# Altium schematic symbol library Lib_001.SchLib: 489 symbols (part 2 of 4)
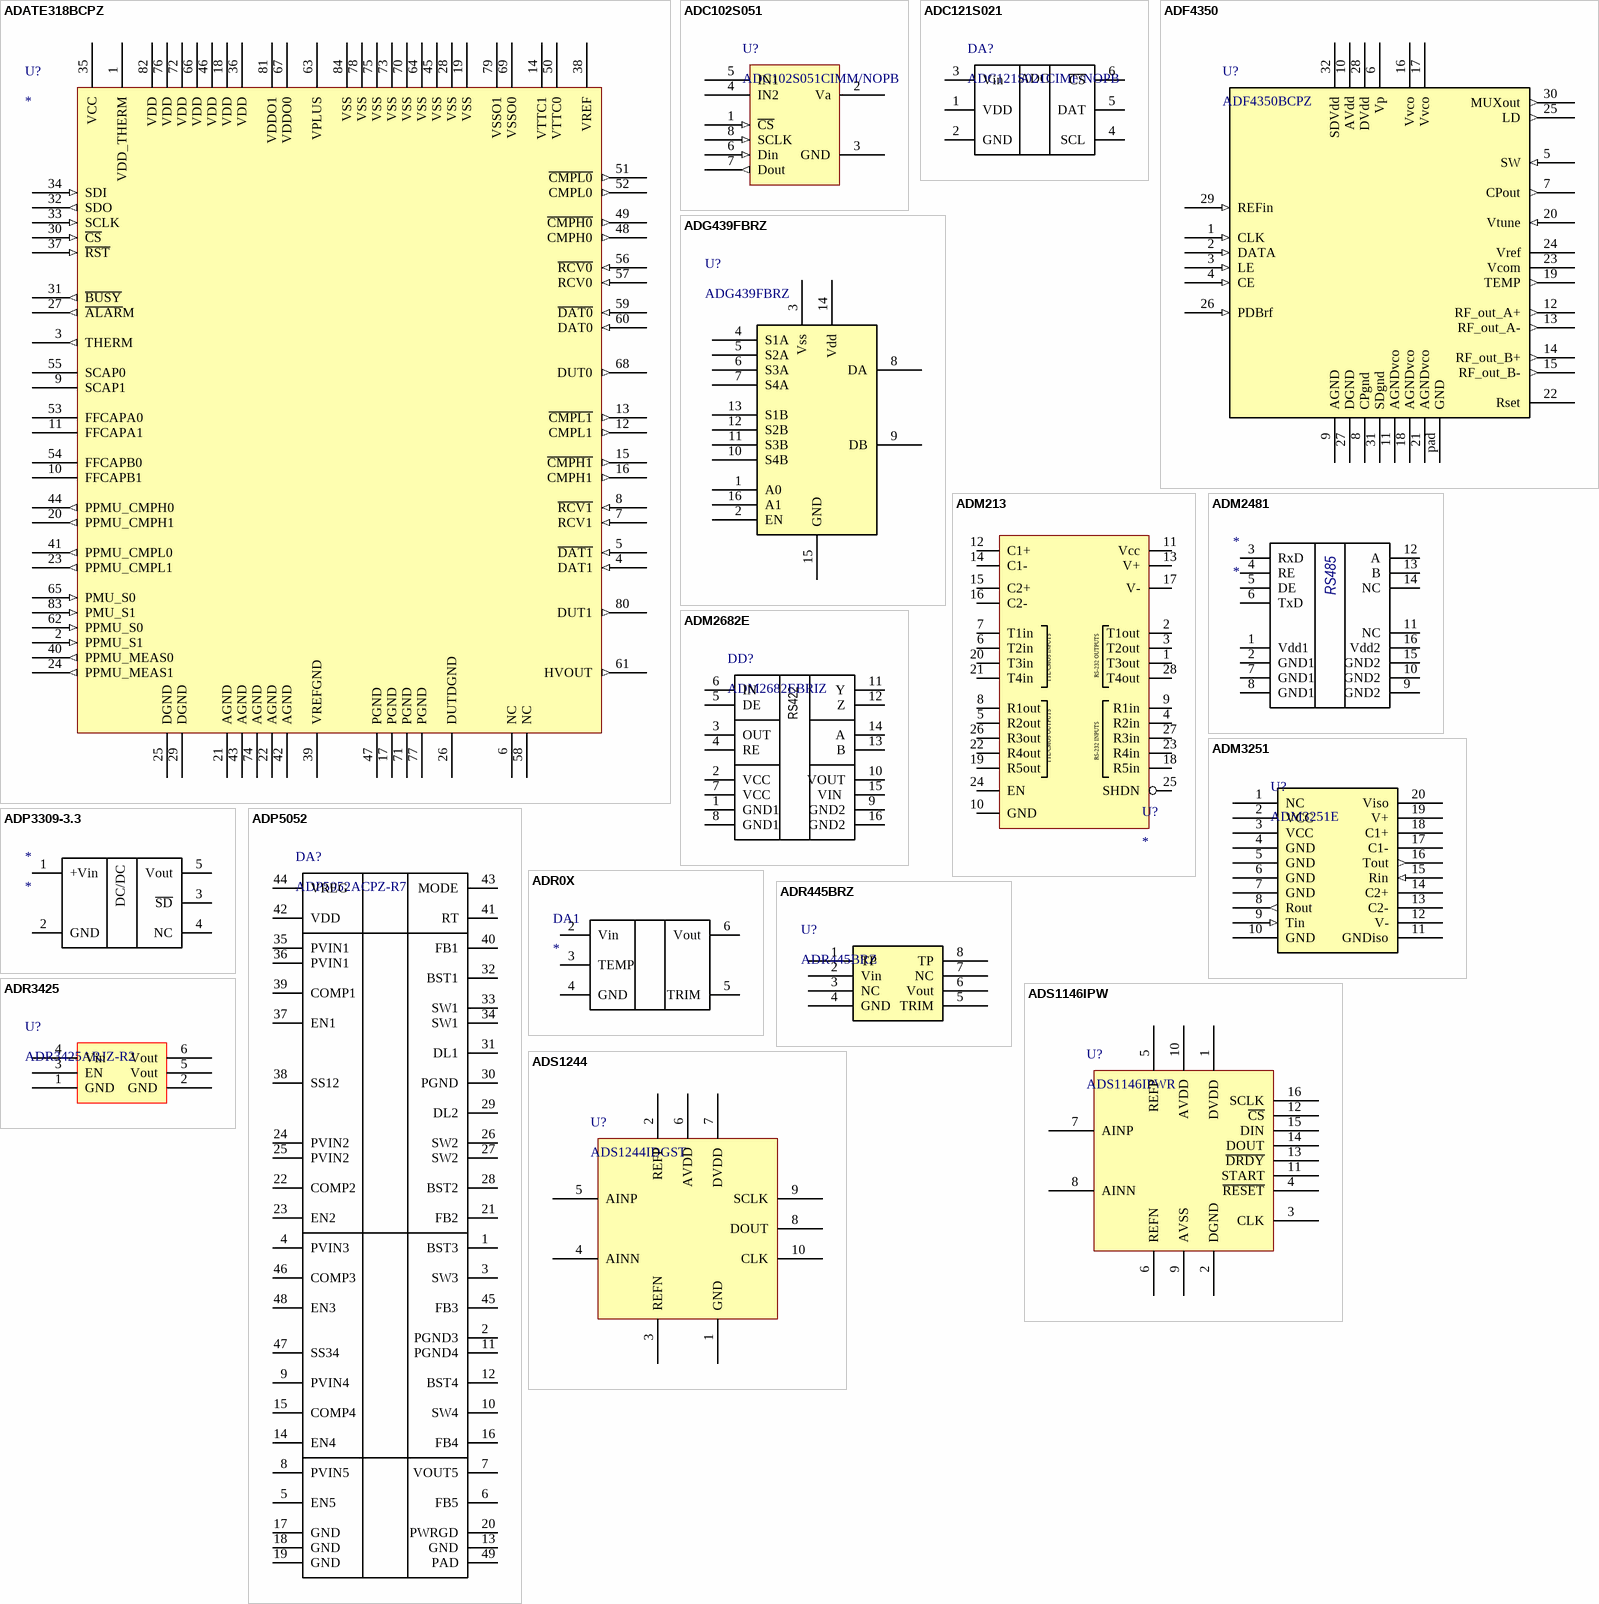
[diagram p37: symbols ADATE318BCPZ to ADS1244]

## ADM2682E
designator DD?, comment ADM2682EBRIZ
Isolated Single Channel RS-422 Line Driver/Receiver; value: ADM2682EBRIZ
footprint SO16_WB (16-Lead SOIC (wide body))
pins: 1 GND1, 2 VCC, 3 OUT, 4 RE, 5 DE, 6 IN, 7 VCC, 8 GND1, 9 GND2, 10 VOUT, 11 Y, 12 Z, 13 B, 14 A, 15 VIN , 16 GND2
text: RS422

## ADM3251
designator U?, comment ADM3251E
Isolated Single Channel RS-232 Line Driver/Receiver; value: ADM3251E
footprint SO-20-W
pins: 1 NC, 2 VCC, 3 VCC, 4 GND, 5 GND, 6 GND, 7 GND, 8 Rout (out), 9 Tin (in), 10 GND, 11 GNDiso, 12 V-, 13 C2-, 14 C2+, 15 Rin (in), 16 Tout (out), 17 C1-, 18 C1+, 19 V+, 20 Viso

## ADP3309-3.3
designator *
pins: 1 +Vin, 2 GND, 3 ~{SD}, 4 NC, 5 Vout
text: DC/DC

## ADP5052
designator DA?, comment ADP5052ACPZ-R7
-  Channel Integrated Power Solution with Quad Buck Regulators and 200 mA LDO Regulator; value: ADP5052ACPZ-R7
pins: 1 BST3 (power), 2 PGND3 (power), 3 SW3 (power), 4 PVIN3 (power), 5 EN5 (power), 6 FB5 (power), 7 VOUT5 (power), 8 PVIN5 (power), 9 PVIN4 (power), 10 SW4 (power), 11 PGND4 (power), 12 BST4 (power), 13 GND (power), 14 EN4 (power), 15 COMP4 (power), 16 FB4 (power), 17 GND (power), 18 GND (power), 19 GND (power), 20 PWRGD (power), 21 FB2 (power), 22 COMP2 (power), 23 EN2 (power), 24 PVIN2 (power), 25 PVIN2 (power), 26 SW2 (power), 27 SW2 (power), 28 BST2 (power), 29 DL2 (power), 30 PGND (power), 31 DL1 (power), 32 BST1 (power), 33 SW1 (power), 34 SW1 (power), 35 PVIN1 (power), 36 PVIN1 (power), 37 EN1 (power), 38 SS12  (power), 39 COMP1 (power), 40 FB1 (power), 41 RT (power), 42 VDD  (power), 43 MODE (power), 44 VREG (power), 45 FB3 (power), 46 COMP3 (power), 47 SS34 (power), 48 EN3 (power), 49 PAD (power)

## ADR0X
designator DA1
10.0 V/5.0 V/2.5 V/3.0 V Voltage References
footprint SOIC8
pins: 2 Vin, 3 TEMP, 4 GND, 5 TRIM, 6 Vout

## ADR445BRZ
designator U?
value: ADR445BRZ
footprint SOIC8
pins: 1 TP, 2 Vin, 3 NC, 4 GND, 5 TRIM, 6 Vout, 7 NC, 8 TP

## ADR3425
designator U?, comment ADR3425ARJZ-R2
value: ADR3425ARJZ-R2
footprint SOT-23-6 (SOT-23 5pin)
pins: 1 GND (power), 2 GND (power), 3 EN (power), 4 Vin (power), 5 Vout (power), 6 Vout (power)

## ADS1146IPW
designator U?, comment ADS1146IPWR
16-Bit  Analog-to-Digital  Converters; value: ADS1146IPWR
footprint TSSOP16
pins: 1 DVDD, 2 DGND, 3 CLK, 4 ~{RESET}, 5 REFP, 6 REFN, 7 AINP, 8 AINN, 9 AVSS, 10 AVDD, 11 START, 12 ~{CS}, 13 ~{DRDY}, 14 DOUT, 15 DIN, 16 SCLK

## ADS1244
designator U?, comment ADS1244IDGST
16-Bit  Analog-to-Digital  Converters; value: ADS1244IDGST
footprint MSOP10
pins: 1 GND, 2 REFP, 3 REFN, 4 AINN, 5 AINP, 6 AVDD, 7 DVDD, 8 DOUT, 9 SCLK, 10 CLK

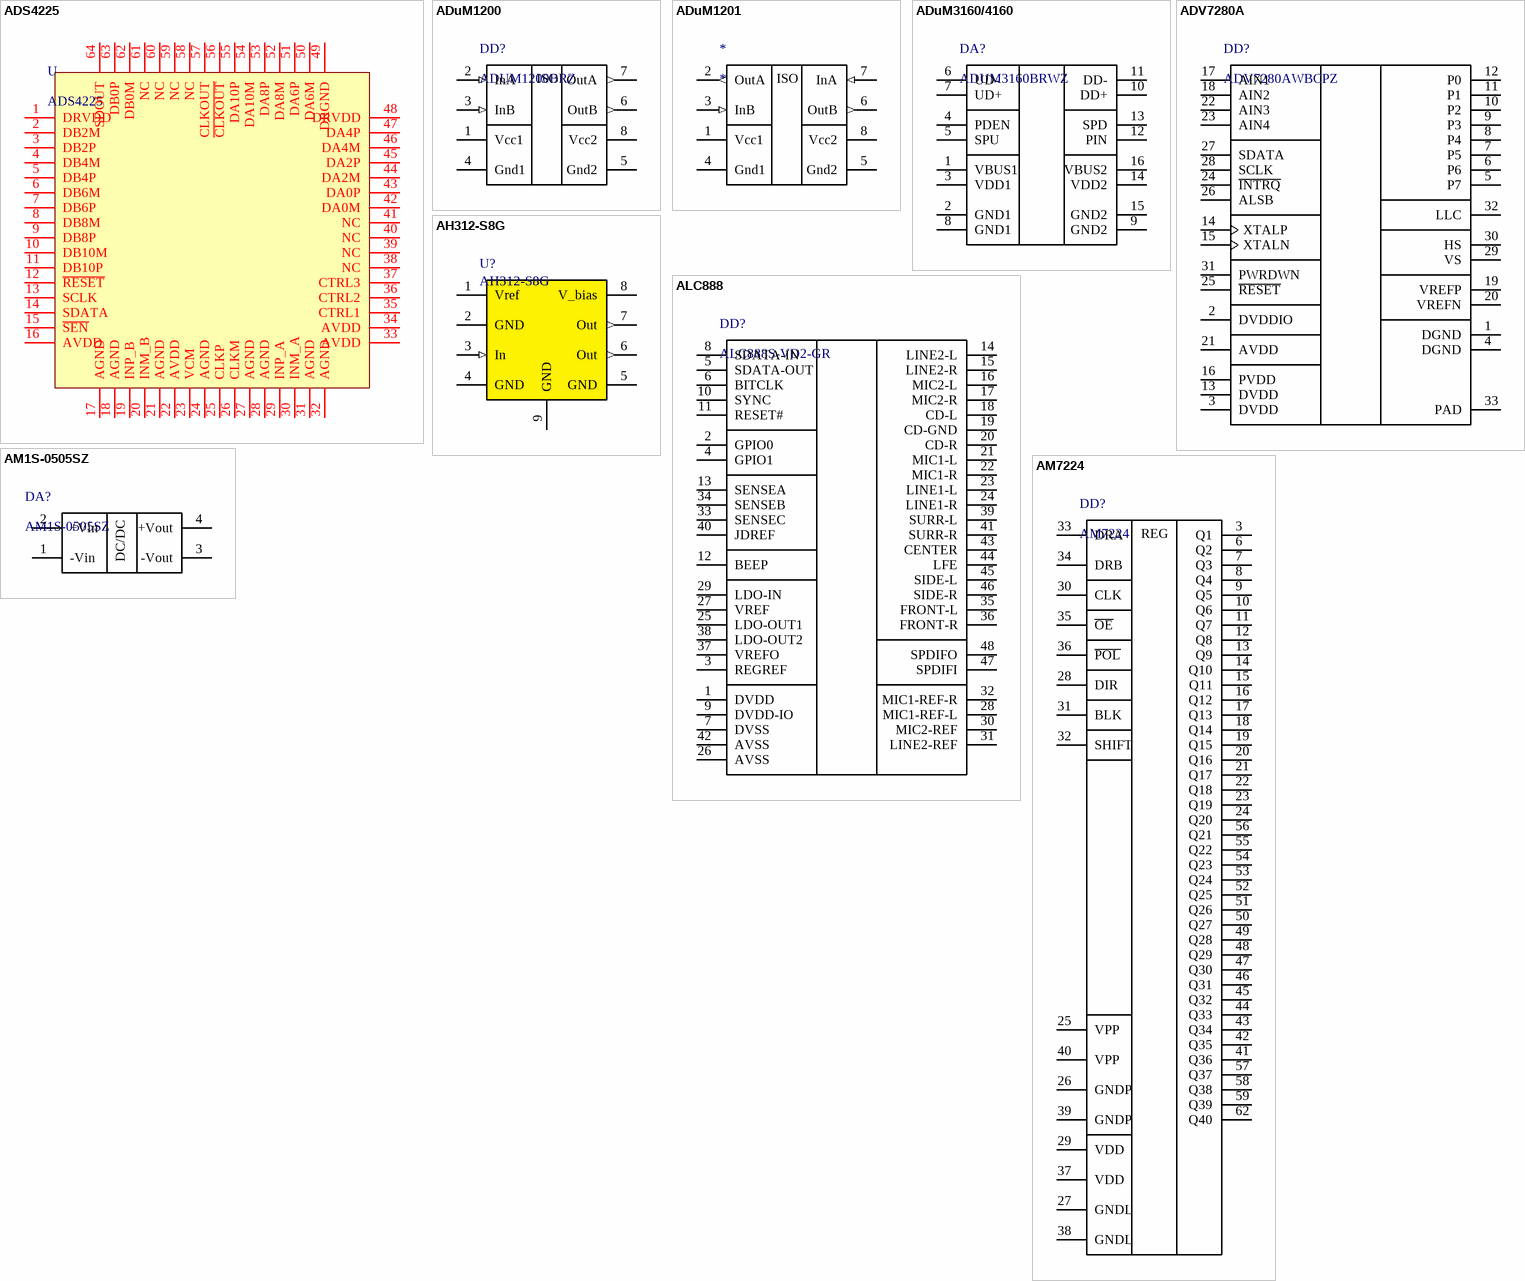
[diagram p9: symbols ADS4225 to AM7224]

## ADS4225
designator U
pins: 1 DRVDD, 2 DB2M, 3 DB2P, 4 DB4M, 5 DB4P, 6 DB6M, 7 DB6P, 8 DB8M, 9 DB8P, 10 DB10M, 11 DB10P, 12 ~{RESET}, 13 SCLK, 14 SDATA, 15 ~{SEN}, 16 AVDD, 17 AGND, 18 AGND, 19 INP_B, 20 INM_B, 21 AGND, 22 AVDD, 23 VCM, 24 AGND, 25 CLKP, 26 CLKM, 27 AGND, 28 AGND, 29 INP_A, 30 INM_A, 31 AGND, 32 AGND, 33 AVDD, 34 AVDD, 35 CTRL1, 36 CTRL2, 37 CTRL3, 38 NC, 39 NC, 40 NC, 41 NC, 42 DA0M, 43 DA0P, 44 DA2M, 45 DA2P, 46 DA4M, 47 DA4P, 48 DRVDD, 49 DRGND, 50 DA6M, 51 DA6P, 52 DA8M, 53 DA8P, 54 DA10M, 55 DA10P, 56 ~{CLKOUT}, 57 CLKOUT, 58 NC, 59 NC, 60 NC, 61 NC, 62 DB0M, 63 DB0P, 64 SDOUT

## ADuM1200
designator DD?, comment ADUM1200BRZ
Dual-Channel Digital Isolators; value: ADUM1200BRZ
footprint SO8 (SOIC, 8-Leads, Body 4.9x3.9mm, Pitch 1.27mm, IPC Medium Density)
pins: 1 Vcc1 (power), 2 InA (in), 3 InB (in), 4 Gnd1 (power), 5 Gnd2 (power), 6 OutB (out), 7 OutA (out), 8 Vcc2 (power)
text: ISO

## ADuM1201
designator *
Dual-Channel Digital Isolators
pins: 1 Vcc1 (power), 2 OutA (out), 3 InB (in), 4 Gnd1 (power), 5 Gnd2 (power), 6 OutB (out), 7 InA (in), 8 Vcc2 (power)
text: ISO

## ADuM3160/4160
designator DA?, comment ADUM3160BRWZ
USB isolator; value: ADUM3160BRWZ
footprint SO16_WB (16-Lead SOIC (wide body))
pins: 1 VBUS1, 2 GND1, 3 VDD1, 4 PDEN, 5 SPU, 6 UD-, 7 UD+, 8 GND1, 9 GND2, 10 DD+, 11 DD-, 12 PIN, 13 SPD, 14 VDD2, 15 GND2, 16 VBUS2

## ADV7280A
designator DD?, comment ADV7280AWBCPZ
TV Video decoder; value: ADV7280AWBCPZ
footprint QFN32 (Footprint not found)
pins: 1 DGND, 2 DVDDIO, 3 DVDD, 4 DGND, 5 P7, 6 P6, 7 P5, 8 P4, 9 P3, 10 P2, 11 P1, 12 P0, 13 DVDD, 14 XTALP, 15 XTALN, 16 PVDD, 17 AIN1, 18 AIN2, 19 VREFP, 20 VREFN, 21 AVDD, 22 AIN3, 23 AIN4, 24 ~{INTRQ}, 25 ~{RESET}, 26 ALSB, 27 SDATA, 28 SCLK, 29 VS, 30 HS, 31 PWRDWN, 32 LLC, 33 PAD

## AH312-S8G
designator U?
value: AH312-S8G
footprint SOIC8 PAD
pins: 1 Vref (power), 2 GND, 3 In (in), 4 GND, 5 GND, 6 Out (out), 7 Out (out), 8 V_bias (power), 9 GND (power)

## ALC888
designator DD?, comment ALC888S-VD2-GR
value: ALC888S-VD2-GR
footprint LQFP48 (Footprint not found)
pins: 1 DVDD, 2 GPIO0, 3 REGREF, 4 GPIO1, 5 SDATA-OUT, 6 BITCLK, 7 DVSS, 8 SDATA-IN, 9 DVDD-IO, 10 SYNC, 11 RESET#, 12 BEEP, 13 SENSEA, 14 LINE2-L, 15 LINE2-R, 16 MIC2-L, 17 MIC2-R, 18 CD-L, 19 CD-GND, 20 CD-R, 21 MIC1-L, 22 MIC1-R, 23 LINE1-L, 24 LINE1-R, 25 LDO-OUT1, 26 AVSS, 27 VREF, 28 MIC1-REF-L, 29 LDO-IN, 30 MIC2-REF, 31 LINE2-REF, 32 MIC1-REF-R, 33 SENSEC, 34 SENSEB, 35 FRONT-L, 36 FRONT-R, 37 VREFO, 38 LDO-OUT2, 39 SURR-L, 40 JDREF, 41 SURR-R, 42 AVSS, 43 CENTER, 44 LFE, 45 SIDE-L, 46 SIDE-R, 47 SPDIFI, 48 SPDIFO

## AM1S-0505SZ
designator DA?
1 Watt  DC-DC Converter; value: AM1S-0505SZ
footprint SIP_4
pins: 1 -Vin, 2 +Vin, 3 -Vout, 4 +Vout
text: DC/DC

## AM7224
designator DD?
Ангстрем; value: AM7224; rus_value: AM7224
footprint Н18.64-3В
footprint Н18.64-3В_short pins
pins: 3 Q1, 6 Q2, 7 Q3, 8 Q4, 9 Q5, 10 Q6, 11 Q7, 12 Q8, 13 Q9, 14 Q10, 15 Q11, 16 Q12, 17 Q13, 18 Q14, 19 Q15, 20 Q16, 21 Q17, 22 Q18, 23 Q19, 24 Q20, 25 VPP, 26 GNDP, 27 GNDL, 28 DIR, 29 VDD, 30 CLK, 31 BLK, 32 SHIFT, 33 DRA, 34 DRB, 35 ~{OE}, 36 ~{POL}, 37 VDD, 38 GNDL, 39 GNDP, 40 VPP, 41 Q36, 42 Q35, 43 Q34, 44 Q33, 45 Q32, 46 Q31, 47 Q30, 48 Q29, 49 Q28, 50 Q27, 51 Q26, 52 Q25, 53 Q24, 54 Q23, 55 Q22, 56 Q21, 57 Q37, 58 Q38, 59 Q39, 62 Q40
text: REG

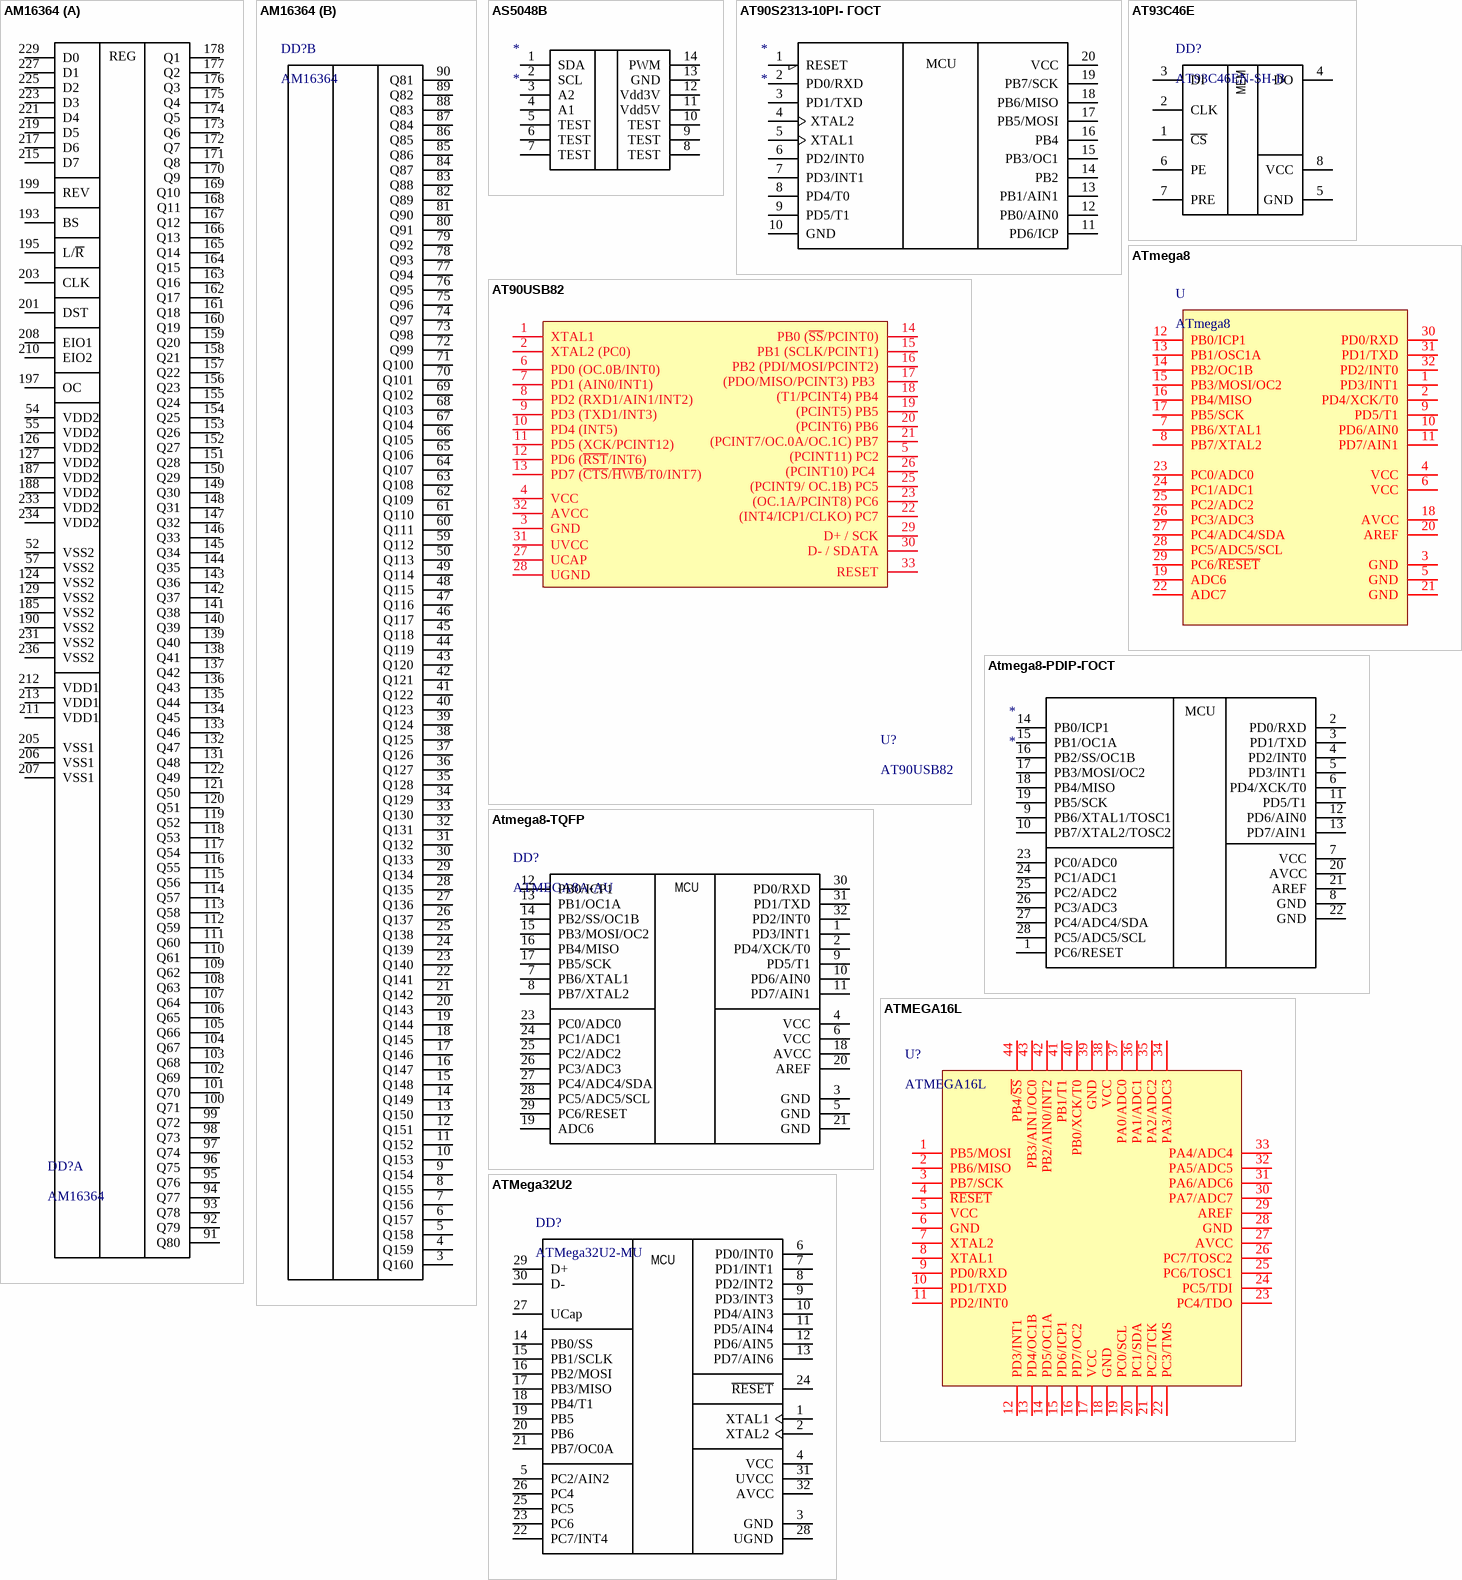
[diagram p10: symbols AM16364 to ATMega32U2]

## AM16364
designator DD?
Ангстрем; value: AM16364
footprint 4245.240-6
part A pins: 52 VSS2, 54 VDD2, 55 VDD2, 57 VSS2, 91 Q80, 92 Q79, 93 Q78, 94 Q77, 95 Q76, 96 Q75, 97 Q74, 98 Q73, 99 Q72, 100 Q71, 101 Q70, 102 Q69, 103 Q68, 104 Q67, 105 Q66, 106 Q65, 107 Q64, 108 Q63, 109 Q62, 110 Q61, 111 Q60, 112 Q59, 113 Q58, 114 Q57, 115 Q56, 116 Q55, 117 Q54, 118 Q53, 119 Q52, 120 Q51, 121 Q50, 122 Q49, 124 VSS2, 126 VDD2, 127 VDD2, 129 VSS2, 131 Q48, 132 Q47, 133 Q46, 134 Q45, 135 Q44, 136 Q43, 137 Q42, 138 Q41, 139 Q40, 140 Q39, 141 Q38, 142 Q37, 143 Q36, 144 Q35, 145 Q34, 146 Q33, 147 Q32, 148 Q31, 149 Q30, 150 Q29, 151 Q28, 152 Q27, 153 Q26, 154 Q25, 155 Q24, 156 Q23, 157 Q22, 158 Q21, 159 Q20, 160 Q19, 161 Q18, 162 Q17, 163 Q16, 164 Q15, 165 Q14, 166 Q13, 167 Q12, 168 Q11, 169 Q10, 170 Q9, 171 Q8, 172 Q7, 173 Q6, 174 Q5, 175 Q4, 176 Q3, 177 Q2, 178 Q1, 185 VSS2, 187 VDD2, 188 VDD2, 190 VSS2, 193 BS, 195 L/~{R}, 197 OC, 199 REV, 201 DST, 203 CLK, 205 VSS1, 206 VSS1, 207 VSS1, 208 EIO1, 210 EIO2, 211 VDD1, 212 VDD1, 213 VDD1, 215 D7, 217 D6, 219 D5, 221 D4, 223 D3, 225 D2, 227 D1, 229 D0, 231 VSS2, 233 VDD2, 234 VDD2, 236 VSS2
part B pins: 3 Q160, 4 Q159, 5 Q158, 6 Q157, 7 Q156, 8 Q155, 9 Q154, 10 Q153, 11 Q152, 12 Q151, 13 Q150, 14 Q149, 15 Q148, 16 Q147, 17 Q146, 18 Q145, 19 Q144, 20 Q143, 21 Q142, 22 Q141, 23 Q140, 24 Q139, 25 Q138, 26 Q137, 27 Q136, 28 Q135, 29 Q134, 30 Q133, 31 Q132, 32 Q131, 33 Q130, 34 Q129, 35 Q128, 36 Q127, 37 Q126, 38 Q125, 39 Q124, 40 Q123, 41 Q122, 42 Q121, 43 Q120, 44 Q119, 45 Q118, 46 Q117, 47 Q116, 48 Q115, 49 Q114, 50 Q113, 59 Q112, 60 Q111, 61 Q110, 62 Q109, 63 Q108, 64 Q107, 65 Q106, 66 Q105, 67 Q104, 68 Q103, 69 Q102, 70 Q101, 71 Q100, 72 Q99, 73 Q98, 74 Q97, 75 Q96, 76 Q95, 77 Q94, 78 Q93, 79 Q92, 80 Q91, 81 Q90, 82 Q89, 83 Q88, 84 Q87, 85 Q86, 86 Q85, 87 Q84, 88 Q83, 89 Q82, 90 Q81
part A text: REG

## AS5048B
designator *
pins: 1 SDA, 2 SCL, 3 A2, 4 A1, 5 TEST, 6 TEST, 7 TEST, 8 TEST, 9 TEST, 10 TEST, 11 Vdd5V, 12 Vdd3V, 13 GND, 14 PWM

## AT90S2313-10PI- ГОСТ
designator *
footprint SO-20-W
pins: 1 RESET, 2 PD0/RXD, 3 PD1/TXD, 4 XTAL2, 5 XTAL1, 6 PD2/INT0, 7 PD3/INT1, 8 PD4/T0, 9 PD5/T1, 10 GND, 11 PD6/ICP, 12 PB0/AIN0, 13 PB1/AIN1, 14 PB2, 15 PB3/OC1, 16 PB4, 17 PB5/MOSI, 18 PB6/MISO, 19 PB7/SCK, 20 VCC
text: MCU

## AT90USB82
designator U?
pins: 1 XTAL1, 2 XTAL2 (PC0) , 3 GND, 4 VCC, 5 (PCINT11) PC2, 6 PD0 (OC.0B/INT0), 7 PD1 (AIN0/INT1), 8 PD2 (RXD1/AIN1/INT2), 9 PD3 (TXD1/INT3), 10 PD4 (INT5), 11 PD5 (XCK/PCINT12), 12 PD6 (~{RST}/INT6), 13 PD7 (~{CTS}/~{HWB}/T0/INT7), 14 PB0 (~{SS}/PCINT0), 15 PB1 (SCLK/PCINT1), 16 PB2 (PDI/MOSI/PCINT2), 17 (PDO/MISO/PCINT3) PB3 , 18 (T1/PCINT4) PB4, 19 (PCINT5) PB5, 20 (PCINT6) PB6, 21 (PCINT7/OC.0A/OC.1C) PB7, 22 (INT4/ICP1/CLKO) PC7, 23 (OC.1A/PCINT8) PC6, 25 (PCINT9/ OC.1B) PC5, 26 (PCINT10) PC4 , 27 UCAP, 28 UGND, 29 D+ / SCK, 30 D- / SDATA, 31 UVCC, 32 AVCC, 33 RESET

## AT93C46E
designator DD?, comment AT93C46EN-SH-B
SERIAL FLASH MEMORY WITH 4KB SECTORS AND DUAL I/O SPI; value: AT93C46EN-SH-B
footprint SO8 (SOIC, 8-Leads, Body 4.9x3.9mm, Pitch 1.27mm, IPC Medium Density)
pins: 1 ~{CS}, 2 CLK, 3 DI, 4 DO, 5 GND, 6 PE, 7 PRE, 8 VCC
text: MEM

## ATmega8
designator U
footprint TQFP32
pins: 1 PD3/INT1, 2 PD4/XCK/T0, 3 GND, 4 VCC, 5 GND, 6 VCC, 7 PB6/XTAL1, 8 PB7/XTAL2, 9 PD5/T1, 10 PD6/AIN0, 11 PD7/AIN1, 12 PB0/ICP1, 13 PB1/OSC1A, 14 PB2/OC1B, 15 PB3/MOSI/OC2, 16 PB4/MISO, 17 PB5/SCK, 18 AVCC, 19 ADC6, 20 AREF, 21 GND, 22 ADC7, 23 PC0/ADC0, 24 PC1/ADC1, 25 PC2/ADC2, 26 PC3/ADC3, 27 PC4/ADC4/SDA, 28 PC5/ADC5/SCL, 29 PC6/~{RESET}, 30 PD0/RXD, 31 PD1/TXD, 32 PD2/INT0

## Atmega8-PDIP-ГОСТ
designator *
Atmega8
footprint TQFP44
pins: 1 PC6/RESET, 2 PD0/RXD, 3 PD1/TXD, 4 PD2/INT0, 5 PD3/INT1, 6 PD4/XCK/T0, 7 VCC, 8 GND, 9 PB6/XTAL1/TOSC1, 10 PB7/XTAL2/TOSC2, 11 PD5/T1, 12 PD6/AIN0, 13 PD7/AIN1, 14 PB0/ICP1, 15 PB1/OC1A, 16 PB2/SS/OC1B, 17 PB3/MOSI/OC2, 18 PB4/MISO, 19 PB5/SCK, 20 AVCC, 21 AREF, 22 GND, 23 PC0/ADC0, 24 PC1/ADC1, 25 PC2/ADC2, 26 PC3/ADC3, 27 PC4/ADC4/SDA, 28 PC5/ADC5/SCL
text: MCU

## Atmega8-TQFP
designator DD?, comment ATMEGA8A-AU
Atmega8; value: ATMEGA8A-AU
footprint TQFP44
pins: 1 PD3/INT1, 2 PD4/XCK/T0, 3 GND, 4 VCC, 5 GND, 6 VCC, 7 PB6/XTAL1, 8 PB7/XTAL2, 9 PD5/T1, 10 PD6/AIN0, 11 PD7/AIN1, 12 PB0/ICP1, 13 PB1/OC1A, 14 PB2/SS/OC1B, 15 PB3/MOSI/OC2, 16 PB4/MISO, 17 PB5/SCK, 18 AVCC, 19 ADC6, 20 AREF, 21 GND, 23 PC0/ADC0, 24 PC1/ADC1, 25 PC2/ADC2, 26 PC3/ADC3, 27 PC4/ADC4/SDA, 28 PC5/ADC5/SCL, 29 PC6/RESET, 30 PD0/RXD, 31 PD1/TXD, 32 PD2/INT0
text: MCU

## ATMEGA16L
designator U?
value: ATMEGA16L
footprint TQFP44
pins: 1 PB5/MOSI, 2 PB6/MISO, 3 PB7/SCK, 4 ~{RESET}, 5 VCC, 6 GND, 7 XTAL2, 8 XTAL1, 9 PD0/RXD, 10 PD1/TXD, 11 PD2/INT0, 12 PD3/INT1, 13 PD4/OC1B, 14 PD5/OC1A, 15 PD6/ICP1, 16 PD7/OC2, 17 VCC, 18 GND, 19 PC0/SCL, 20 PC1/SDA, 21 PC2/TCK, 22 PC3/TMS, 23 PC4/TDO, 24 PC5/TDI, 25 PC6/TOSC1, 26 PC7/TOSC2, 27 AVCC, 28 GND, 29 AREF, 30 PA7/ADC7, 31 PA6/ADC6, 32 PA5/ADC5, 33 PA4/ADC4, 34 PA3/ADC3, 35 PA2/ADC2, 36 PA1/ADC1, 37 PA0/ADC0, 38 VCC, 39 GND, 40 PB0/XCK/T0, 41 PB1/T1, 42 PB2/AIN0/INT2, 43 PB3/AIN1/OC0, 44 PB4/~{SS}

## ATMega32U2
designator DD?, comment ATMega32U2-MU
value: ATMega32U2-MU
footprint QFN32 (Footprint not found)
pins: 1 XTAL1, 2 XTAL2, 3 GND, 4 VCC, 5 PC2/AIN2, 6 PD0/INT0, 7 PD1/INT1, 8 PD2/INT2, 9 PD3/INT3, 10 PD4/AIN3, 11 PD5/AIN4, 12 PD6/AIN5, 13 PD7/AIN6, 14 PB0/SS, 15 PB1/SCLK, 16 PB2/MOSI, 17 PB3/MISO, 18 PB4/T1, 19 PB5, 20 PB6, 21 PB7/OC0A, 22 PC7/INT4, 23 PC6, 24 ~{RESET}, 25 PC5, 26 PC4, 27 UCap, 28 UGND, 29 D+, 30 D-, 31 UVCC, 32 AVCC
text: MCU

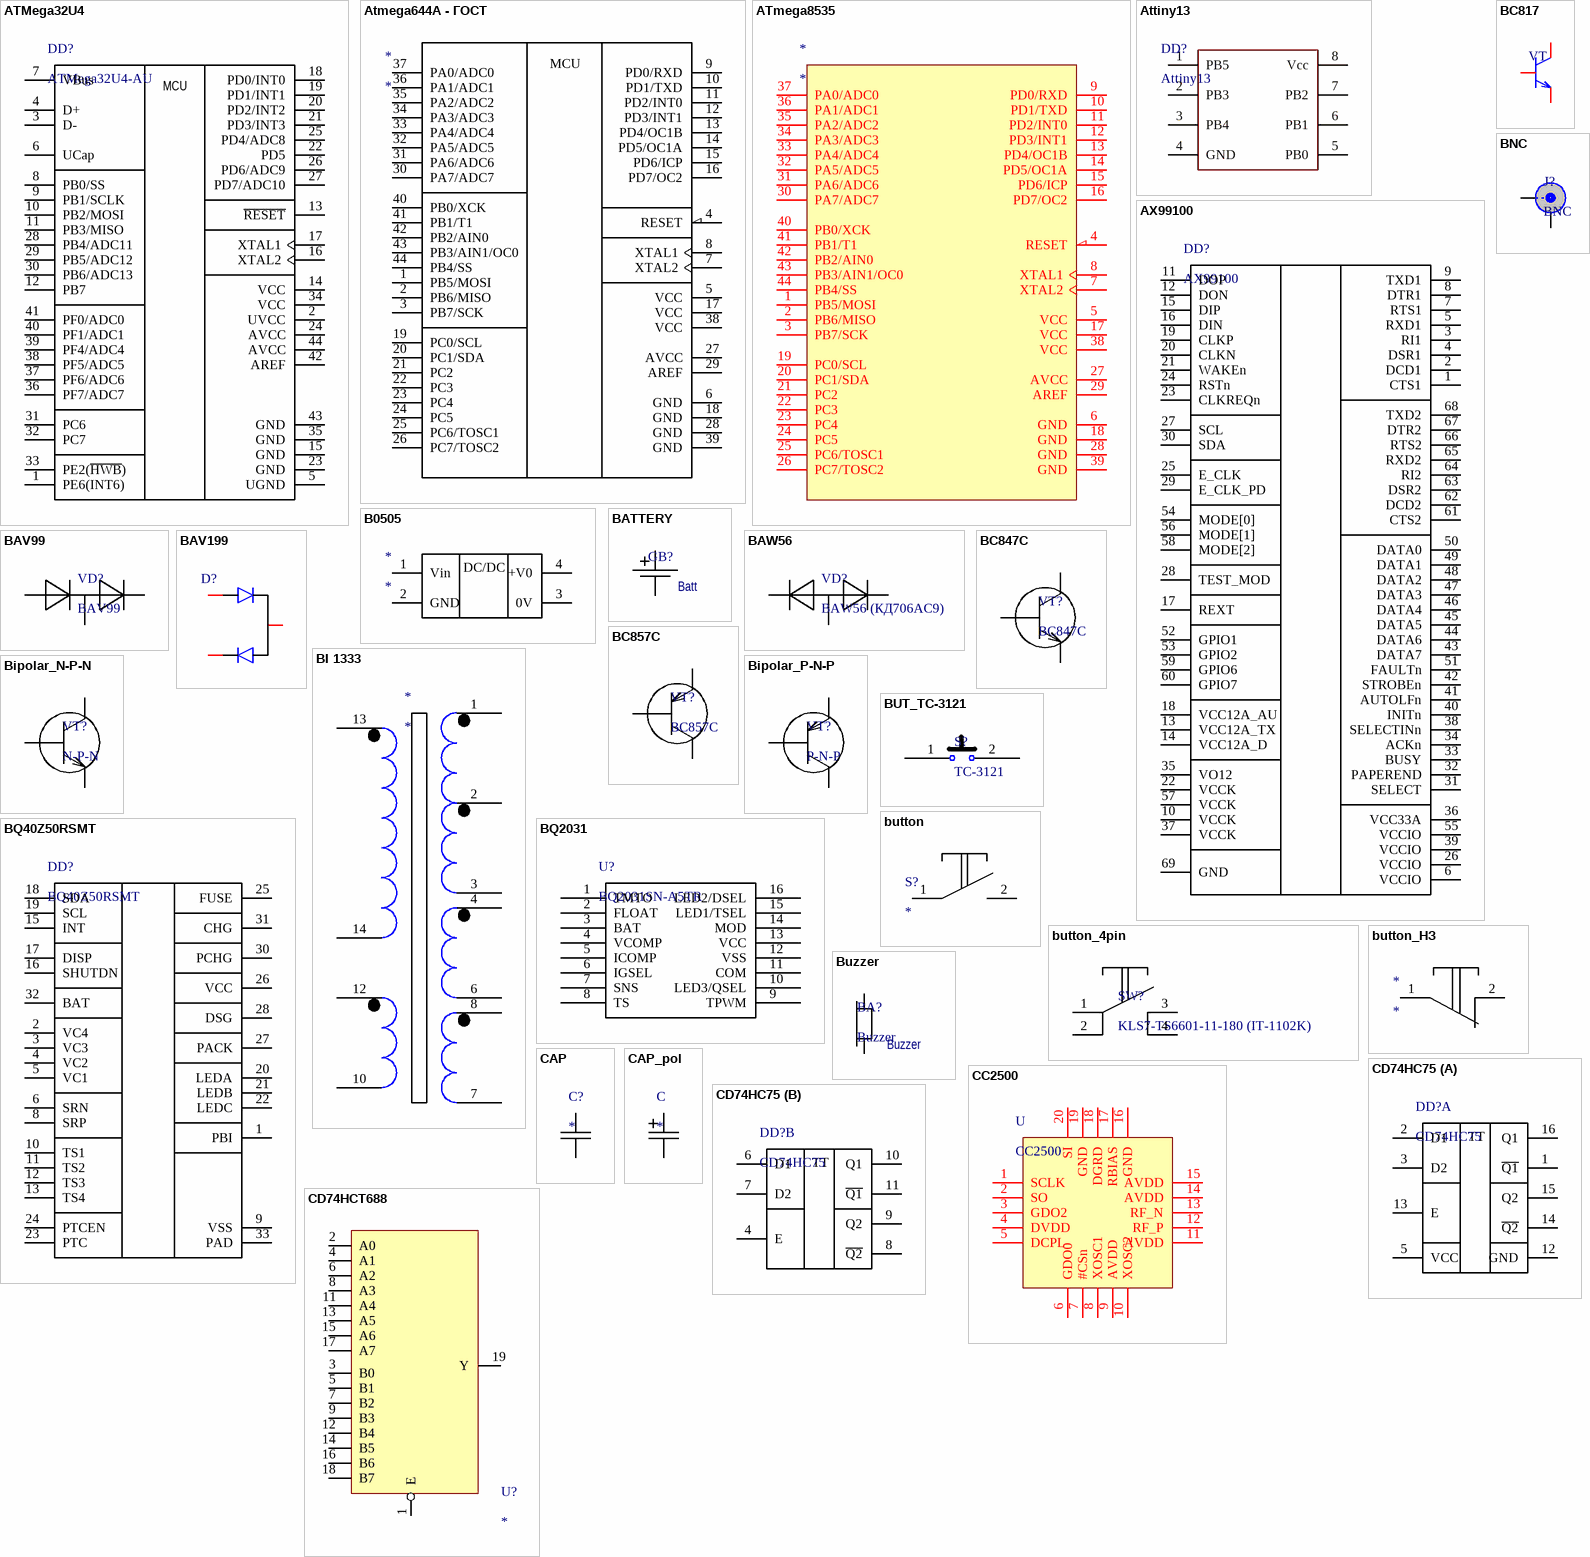
[diagram p11: symbols ATMega32U4 to CD74HCT688]

## ATMega32U4
designator DD?, comment ATMega32U4-AU
value: ATMega32U4-AU
footprint TQFP44
pins: 1 PE6(INT6), 2 UVCC, 3 D-, 4 D+, 5 UGND, 6 UCap, 7 VBus, 8 PB0/SS, 9 PB1/SCLK, 10 PB2/MOSI, 11 PB3/MISO, 12 PB7, 13 ~{RESET}, 14 VCC, 15 GND, 16 XTAL2, 17 XTAL1, 18 PD0/INT0, 19 PD1/INT1, 20 PD2/INT2, 21 PD3/INT3, 22 PD5, 23 GND, 24 AVCC, 25 PD4/ADC8, 26 PD6/ADC9, 27 PD7/ADC10, 28 PB4/ADC11, 29 PB5/ADC12, 30 PB6/ADC13, 31 PC6, 32 PC7, 33 PE2(~{HWB}), 34 VCC, 35 GND, 36 PF7/ADC7, 37 PF6/ADC6, 38 PF5/ADC5, 39 PF4/ADC4, 40 PF1/ADC1, 41 PF0/ADC0, 42 AREF, 43 GND, 44 AVCC
text: MCU

## Atmega644A - ГОСТ
designator *
footprint TQFP44
pins: 1 PB5/MOSI, 2 PB6/MISO, 3 PB7/SCK, 4 RESET, 5 VCC, 6 GND, 7 XTAL2, 8 XTAL1, 9 PD0/RXD, 10 PD1/TXD, 11 PD2/INT0, 12 PD3/INT1, 13 PD4/OC1B, 14 PD5/OC1A, 15 PD6/ICP, 16 PD7/OC2, 17 VCC, 18 GND, 19 PC0/SCL, 20 PC1/SDA, 21 PC2, 22 PC3, 23 PC4, 24 PC5, 25 PC6/TOSC1, 26 PC7/TOSC2, 27 AVCC, 28 GND, 29 AREF, 30 PA7/ADC7, 31 PA6/ADC6, 32 PA5/ADC5, 33 PA4/ADC4, 34 PA3/ADC3, 35 PA2/ADC2, 36 PA1/ADC1, 37 PA0/ADC0, 38 VCC, 39 GND, 40 PB0/XCK, 41 PB1/T1, 42 PB2/AIN0, 43 PB3/AIN1/OC0, 44 PB4/SS
text: MCU

## ATmega8535
designator *
footprint TQFP44
pins: 1 PB5/MOSI, 2 PB6/MISO, 3 PB7/SCK, 4 RESET, 5 VCC, 6 GND, 7 XTAL2, 8 XTAL1, 9 PD0/RXD, 10 PD1/TXD, 11 PD2/INT0, 12 PD3/INT1, 13 PD4/OC1B, 14 PD5/OC1A, 15 PD6/ICP, 16 PD7/OC2, 17 VCC, 18 GND, 19 PC0/SCL, 20 PC1/SDA, 21 PC2, 22 PC3, 23 PC4, 24 PC5, 25 PC6/TOSC1, 26 PC7/TOSC2, 27 AVCC, 28 GND, 29 AREF, 30 PA7/ADC7, 31 PA6/ADC6, 32 PA5/ADC5, 33 PA4/ADC4, 34 PA3/ADC3, 35 PA2/ADC2, 36 PA1/ADC1, 37 PA0/ADC0, 38 VCC, 39 GND, 40 PB0/XCK, 41 PB1/T1, 42 PB2/AIN0, 43 PB3/AIN1/OC0, 44 PB4/SS

## Attiny13
designator DD?
Value: Attiny13
pins: 1 PB5, 2 PB3, 3 PB4, 4 GND, 5 PB0, 6 PB1, 7 PB2, 8 Vcc

## AX99100
designator DD?
value: AX99100
footprint QFN68 (Footprint not found)
pins: 1 CTS1, 2 DCD1, 3 RI1, 4 DSR1, 5 RXD1, 6 VCCIO, 7 RTS1, 8 DTR1, 9 TXD1, 10 VCCK, 11 DOP, 12 DON, 13 VCC12A_TX, 14 VCC12A_D, 15 DIP, 16 DIN, 17 REXT, 18 VCC12A_AU, 19 CLKP, 20 CLKN, 21 WAKEn, 22 VCCK, 23 CLKREQn, 24 RSTn, 25 E_CLK, 26 VCCIO, 27 SCL, 28 TEST_MOD, 29 E_CLK_PD, 30 SDA, 31 SELECT, 32 PAPEREND, 33 BUSY, 34 ACKn, 35 VO12, 36 VCC33A, 37 VCCK, 38 SELECTINn, 39 VCCIO, 40 INITn, 41 AUTOLFn, 42 STROBEn, 43 DATA7, 44 DATA6, 45 DATA5, 46 DATA4, 47 DATA3, 48 DATA2, 49 DATA1, 50 DATA0, 51 FAULTn, 52 GPIO1, 53 GPIO2, 54 MODE[0], 55 VCCIO, 56 MODE[1], 57 VCCK, 58 MODE[2], 59 GPIO6, 60 GPIO7, 61 CTS2, 62 DCD2, 63 DSR2, 64 RI2, 65 RXD2, 66 RTS2, 67 DTR2, 68 TXD2, 69 GND

## B0505
designator *
pins: 1 Vin, 2 GND, 3 0V, 4 +V0
text: DC/DC

## BATTERY
designator GB?  (value not drawn)
footprint S8411-45R (Battery Holder 1220)
pins: 1, 2
text: Batt

## BAV99
designator VD?
Small Signal Switching Diode; value: BAV99
footprint SOT-23
pins: 1 E, 2 G, 3 C

## BAV199
designator D?
footprint SOT-23
pins: 1, 2, 3

## BAW56
designator VD?, comment BAW56 (КД706АС9)
High-speed double diode; value: BAW56 (КД706АС9)
footprint SOT-23
pins: 1 E, 2 G, 3 C

## BC817
designator VT  (value not drawn)
footprint SOT-23_transistor
pins: B 25, C 23, E 24

## BC847C
designator VT?
value: BC847C
footprint SOT-23
pins: 1 B, 2 E, 3 C

## BC857C
designator VT?
value: BC857C
footprint SOT-23
pins: 1 B, 2 E, 3 C

## BI 1333
designator *
pins: 1, 2, 3, 4, 6, 7, 8, 10, 12, 13, 14

## Bipolar_N-P-N
designator VT?, comment N-P-N
value: N-P-N
footprint SOT-23
pins: 1 B, 2 E, 3 C

## Bipolar_P-N-P
designator VT?, comment P-N-P
value: P-N-P
footprint SOT-23
pins: 1 B, 2 E, 3 C

## BNC
designator J?
footprint BNC-7038
footprint BNC-JR (BNC rounded)
pins: G1 G (power) hidden to GND, G2 G (power) hidden to GND, I, O

## BQ40Z50RSMT
designator DD?
value: BQ40Z50RSMT
footprint VQFN32 (Footprint not found)
pins: 1 PBI, 2 VC4, 3 VC3, 4 VC2, 5 VC1, 6 SRN, 8 SRP, 9 VSS, 10 TS1, 11 TS2, 12 TS3, 13 TS4, 15 INT, 16 SHUTDN, 17 DISP, 18 SDA, 19 SCL, 20 LEDA, 21 LEDB, 22 LEDC, 23 PTC, 24 PTCEN, 25 FUSE, 26 VCC, 27 PACK, 28 DSG, 30 PCHG, 31 CHG, 32 BAT, 33 PAD

## BQ2031
designator U?, comment BQ2031SN-A5TR
Switch-mode Lead-Acid Battery Charger with User-Selectable Charge Algorithms; value: BQ2031SN-A5TR
footprint SO16
pins: 1 TMTO, 2 FLOAT, 3 BAT, 4 VCOMP, 5 ICOMP, 6 IGSEL, 7 SNS, 8 TS, 9 TPWM, 10 LED3/QSEL, 11 COM, 12 VSS, 13 VCC, 14 MOD, 15 LED1/TSEL, 16 LED2/DSEL

## BUT_TC-3121
designator S?, comment TC-3121
value: TC-3121
footprint But_1
pins: 1, 2

## button
designator S?
value: *
footprint FSM8JH
pins: 1, 2

## button_4pin
designator SW?, comment KLS7-TS6601-11-180 (IT-1102K)
rus_value: ПКН-159-3; value: KLS7-TS6601-11-180 (IT-1102K)
footprint FSM8JH
pins: 1, 2, 3, 4

## button_НЗ
designator *
pins: 1, 2

## Buzzer
designator BA?
value: Buzzer
pins: 1, 2

## CAP
designator C?
Конденсатор; value: *
footprint SMD0603
footprint SMD0805
footprint SMD1206
pins: 1, 2

## CAP_pol
designator C
Конденсатор; value: *; rus.value: *
footprint SMD0805
footprint SM_C_TANT_B
footprint K50-35_5x11
footprint SM_C_TANT_A
footprint SM_C_TANT_C
footprint SM_C_TANT_D
footprint SM_C_TANT_E
footprint AL_SMD_R228
footprint K50-35_10x16
footprint AL_SMD_8x10 (Aluminium Electrolytic Capacitor)
footprint K50-35_6.3x11
footprint K50-35_8X12
footprint K50-35_16x25
footprint AL_SMD_10x10.5
pins: 1, 2

## CC2500
designator U
footprint QFN20_PAD
pins: 1 SCLK, 2 SO, 3 GDO2, 4 DVDD, 5 DCPL, 6 GDO0, 7 #CSn, 8 XOSC1, 9 AVDD, 10 XOSC2, 11 AVDD, 12 RF_P, 13 RF_N, 14 AVDD, 15 AVDD, 16 GND, 17 RBIAS, 18 DGRD, 19 GND, 20 SI, 21 hidden to GND

## CD74HC75
designator DD?
4-х  разрядная защелка; rus_value: 1564ТМ7; value: CD74HC75
footprint TSSOP16
part A pins: 1 ~{Q1}, 2 D1, 3 D2, 5 VCC, 12 GND, 13 E, 14 ~{Q2}, 15 Q2, 16 Q1
part B pins: 4 E, 6 D1, 7 D2, 8 ~{Q2}, 9 Q2, 10 Q1, 11 ~{Q1}
part A text: TT
part B text: TT

## CD74HCT688
designator U?
pins: 1 E, 2 A0, 3 B0, 4 A1, 5 B1, 6 A2, 7 B2, 8 A3, 9 B3, 11 A4, 12 B4, 13 A5, 14 B5, 15 A6, 16 B6, 17 A7, 18 B7, 19 Y

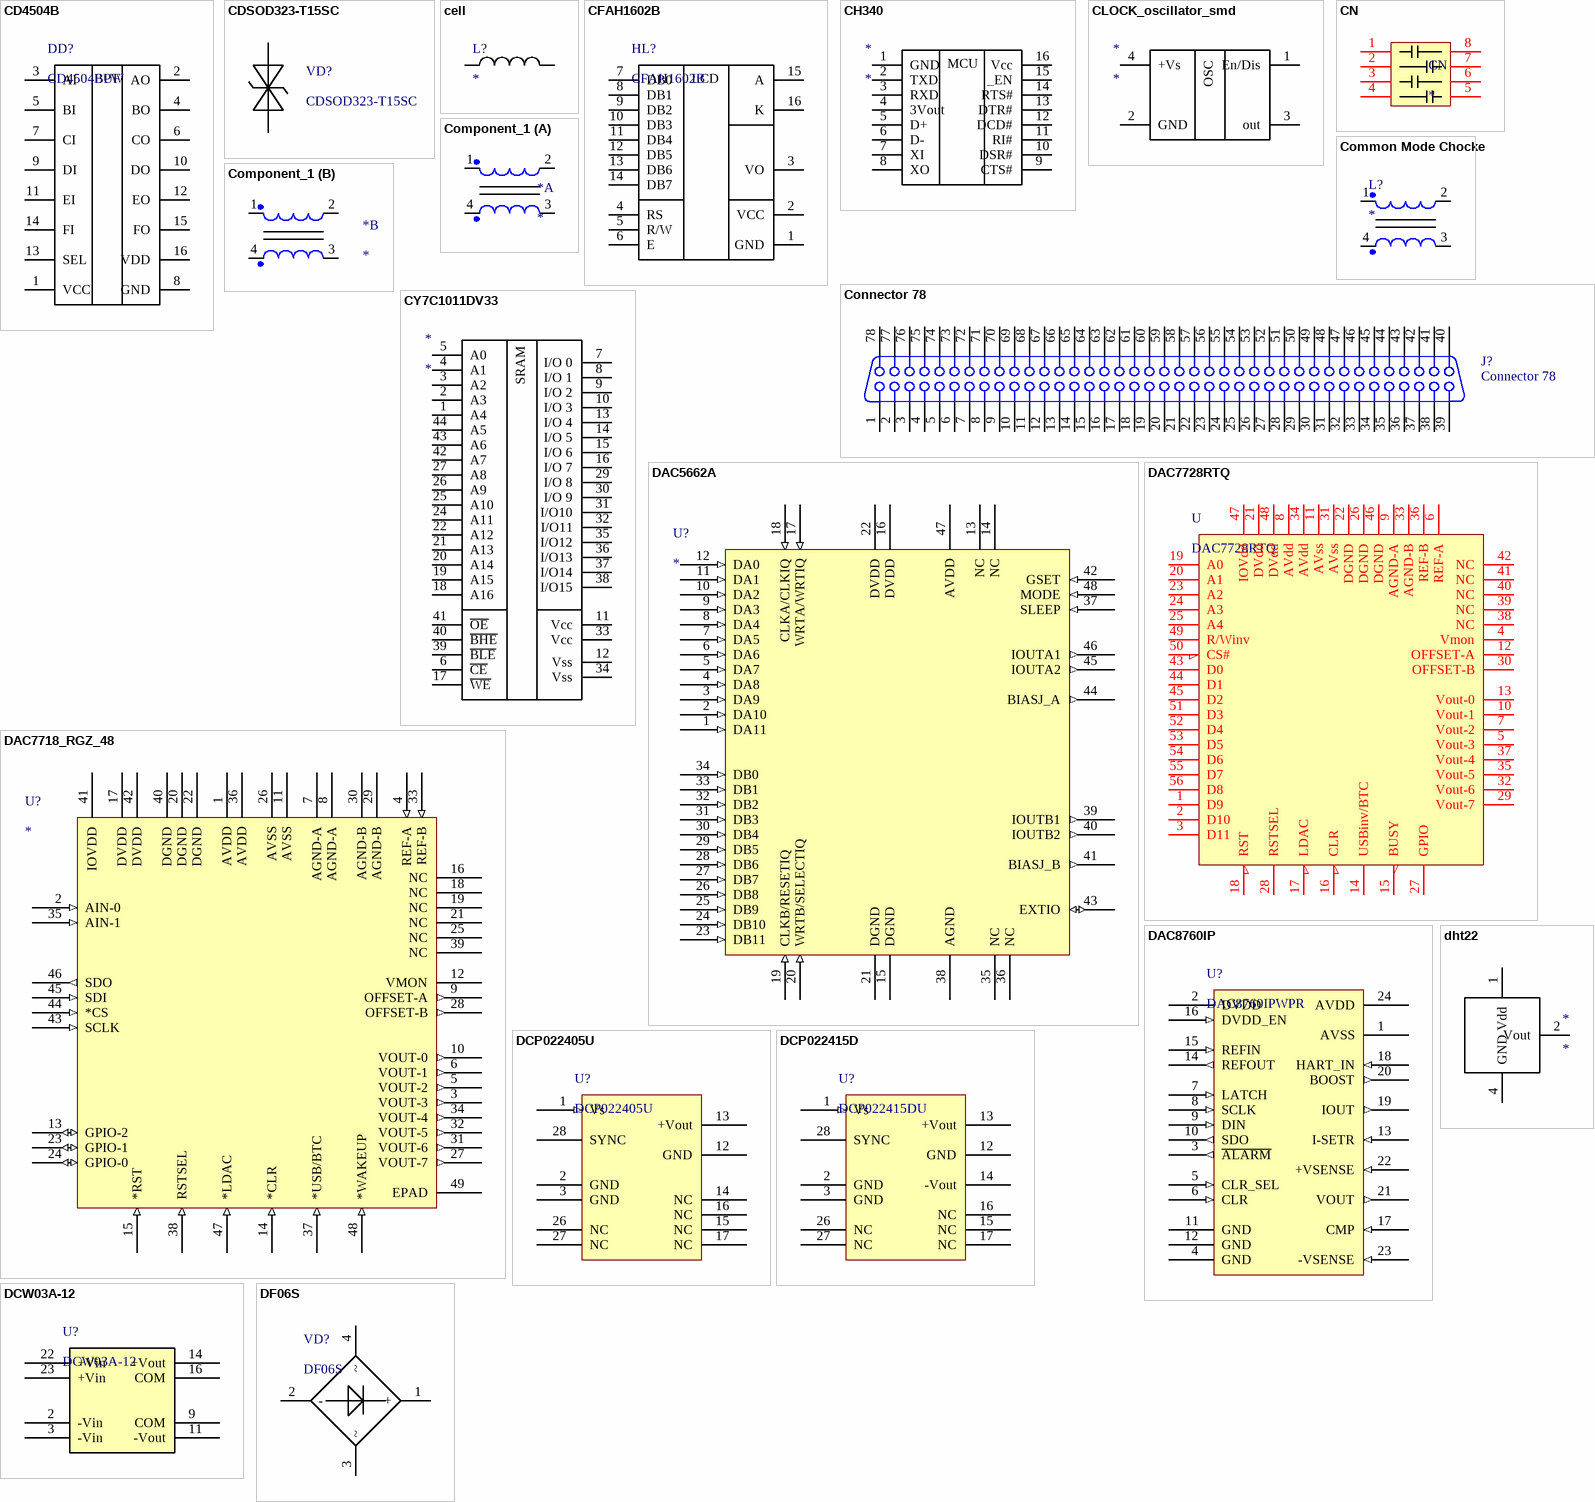
[diagram p12: symbols CD4504B to dht22]

## CD4504B
designator DD?, comment CD4504BPW
value: CD4504BPW
footprint TSSOP16
pins: 1 VCC, 2 AO, 3 AI, 4 BO, 5 BI, 6 CO, 7 CI, 8 GND, 9 DI, 10 DO, 11 EI, 12 EO, 13 SEL, 14 FI, 15 FO, 16 VDD
text: BUF

## CDSOD323-T15SC
designator VD?
value: CDSOD323-T15SC
footprint Model Name (Model Description)
footprint SOD-323
pins: 1 A, 2 K

## cell
designator L?
value: *
pins: 1, 2

## CFAH1602B
designator HL?
LCD 16x2; value: CFAH1602B; rus_value: *
pins: 1 GND, 2 VCC, 3 VO, 4 RS, 5 R/W, 6 E, 7 DB0, 8 DB1, 9 DB2, 10 DB3, 11 DB4, 12 DB5, 13 DB6, 14 DB7, 15 A, 16 K
text: LCD

## CH340
designator *
pins: 1 GND, 2 TXD, 3 RXD, 4 3Vout, 5 D+, 6 D-, 7 XI, 8 XO, 9 CTS#, 10 DSR#, 11 RI#, 12 DCD#, 13 DTR#, 14 RTS#, 15 _EN, 16 Vcc
text: MCU

## CLOCK_oscillator_smd
designator *
pins: 1 En/Dis, 2 GND, 3 out, 4 +Vs
text: OSC

## CN
designator CN
Value: *
footprint 4D03 (0603*4)
pins: 1, 2, 3, 4, 5, 6, 7, 8

## Common Mode Chocke
designator L?
Common Mode Chocke
pins: 1, 2, 3, 4

## Component_1
designator *
part A pins: 1, 2, 3, 4
part B pins: 1, 2, 3, 4

## Connector 78
designator J?
Receptacle Header Assemby; PackageDocument: C; Positions: 80; Published: 15-Jun-2001; LatestRevisionDate: 17-Jul-2002; LatestRevisionNote: Re-released for DXP Platform.; DatasheetDocument: 1-Oct-1983; PackageReference: 917334; Publisher: Altium Limited; Orientation: Vertical
footprint HARTING 09 56 552 7613
pins: 1, 2, 3, 4, 5, 6, 7, 8, 9, 10, 11, 12, 13, 14, 15, 16, 17, 18, 19, 20, 21, 22, 23, 24, 25, 26, 27, 28, 29, 30, 31, 32, 33, 34, 35, 36, 37, 38, 39, 40, 41, 42, 43, 44, 45, 46, 47, 48, 49, 50, 51, 52, 53, 54, 55, 56, 57, 58, 59, 60, 61, 62, 63, 64, 65, 66, 67, 68, 69, 70, 71, 72, 73, 74, 75, 76, 77, 78

## CY7C1011DV33
designator *
pins: 1 A4, 2 A3, 3 A2, 4 A1, 5 A0, 6 ~{CE}, 7 I/O 0, 8 I/O 1, 9 I/O 2, 10 I/O 3, 11 Vcc, 12 Vss, 13 I/O 4, 14 I/O 5, 15 I/O 6, 16 I/O 7, 17 ~{WE}, 18 A16, 19 A15, 20 A14, 21 A13, 22 A12, 24 A11, 25 A10, 26 A9, 27 A8, 29 I/O 8, 30 I/O 9, 31 I/O10, 32 I/O11, 33 Vcc, 34 Vss, 35 I/O12, 36 I/O13, 37 I/O14, 38 I/O15, 39 ~{BLE}, 40 ~{BHE}, 41 ~{OE}, 42 A7, 43 A6, 44 A5
text: SRAM

## DAC5662A
designator U?
DAC 12bit _ 2ch; Manufacturer: Texas Instruments; GENERIC_PART_NUMBER: DAC5662A; INDUSTRY_STD_PKG_TYPE: TQFP; FAMILY_NAME: HIGH SPEED DAC (>10MSPS); PIN_COUNT: 48; PACKAGE_DESIGNATOR: PFB; Value: DAC5662A; Datasheet URL: http://www.ti.com/lit/gpn/DAC5662A; RefDes: RefDes; Type: DEV
footprint PQFP48 (TQFP 48 Leads with Exposed Pad)
pins: 1 DA11 (in), 2 DA10 (in), 3 DA9 (in), 4 DA8 (in), 5 DA7 (in), 6 DA6 (in), 7 DA5 (in), 8 DA4 (in), 9 DA3 (in), 10 DA2 (in), 11 DA1 (in), 12 DA0 (in), 13 NC, 14 NC, 15 DGND (power), 16 DVDD (power), 17 WRTA/WRTIQ (in), 18 CLKA/CLKIQ (in), 19 CLKB/RESETIQ (in), 20 WRTB/SELECTIQ (in), 21 DGND (power), 22 DVDD (power), 23 DB11 (in), 24 DB10 (in), 25 DB9 (in), 26 DB8 (in), 27 DB7 (in), 28 DB6 (in), 29 DB5 (in), 30 DB4 (in), 31 DB3 (in), 32 DB2 (in), 33 DB1 (in), 34 DB0 (in), 35 NC, 36 NC, 37 SLEEP (in), 38 AGND (power), 39 IOUTB1 (out), 40 IOUTB2 (out), 41 BIASJ_B (out), 42 GSET (in), 43 EXTIO (io), 44 BIASJ_A (out), 45 IOUTA2 (out), 46 IOUTA1 (out), 47 AVDD (power), 48 MODE (in)

## DAC7718_RGZ_48
designator U?
Manufacturer: Texas Instruments; GENERIC_PART_NUMBER: DAC7718; Manufacturer_Part_Number: dac7718_rgz_48; INDUSTRY_STD_PKG_TYPE: VQFN; FAMILY_NAME: PRECISION DAC (=<10MSPS); PIN_COUNT: 48; PACKAGE_DESIGNATOR: RGZ; Datasheet URL: http://www.ti.com/lit/gpn/DAC7718; Vendor: Texas Instruments; RefDes: RefDes; Type: DEV; Value: Value
footprint QFN48
pins: 1 AVDD (power), 2 AIN-0 (in), 3 VOUT-3 (out), 4 REF-A (in), 5 VOUT-2 (out), 6 VOUT-1 (out), 7 AGND-A (power), 8 AGND-A (power), 9 OFFSET-A (out), 10 VOUT-0 (out), 11 AVSS (power), 12 VMON (power), 13 GPIO-2 (io), 14 *CLR (in), 15 *RST (in), 16 NC, 17 DVDD (power), 18 NC, 19 NC, 20 DGND (power), 21 NC, 22 DGND (power), 23 GPIO-1 (io), 24 GPIO-0 (io), 25 NC, 26 AVSS (power), 27 VOUT-7 (out), 28 OFFSET-B (out), 29 AGND-B (power), 30 AGND-B (power), 31 VOUT-6 (out), 32 VOUT-5 (out), 33 REF-B (in), 34 VOUT-4 (out), 35 AIN-1 (in), 36 AVDD (power), 37 *USB/BTC (in), 38 RSTSEL (in), 39 NC, 40 DGND (power), 41 IOVDD (power), 42 DVDD (power), 43 SCLK (in), 44 *CS (in), 45 SDI (in), 46 SDO (out), 47 *LDAC (in), 48 *WAKEUP (in), 49 EPAD

## DAC7728RTQ
designator U
footprint QFN-56
pins: 1 D9, 2 D10, 3 D11, 4 Vmon, 5 Vout-3, 6 REF-A, 7 Vout-2, 8 AVdd, 9 AGND-A, 10 Vout-1, 11 AVss, 12 OFFSET-A, 13 Vout-0, 14 USBinv/BTC, 15 BUSY, 16 CLR, 17 LDAC, 18 RST, 19 A0, 20 A1, 21 DVdd, 22 DGND, 23 A2, 24 A3, 25 A4, 26 DGND, 27 GPIO, 28 RSTSEL, 29 Vout-7, 30 OFFSET-B, 31 AVss, 32 Vout-6, 33 AGND-B, 34 AVdd, 35 Vout-5, 36 REF-B, 37 Vout-4, 38 NC, 39 NC, 40 NC, 41 NC, 42 NC, 43 D0, 44 D1, 45 D2, 46 DGND, 47 IOVdd, 48 DVdd, 49 R/Winv, 50 CS#, 51 D3, 52 D4, 53 D5, 54 D6, 55 D7, 56 D8

## DAC8760IP
designator U?, comment DAC8760IPWPR
16-Bit  Programmable  Current  Output  and  Voltage  Output  Digital-to-Analog  Converters  for  4-mA  to  20-mA  Current; value: DAC8760IPWPR
footprint TSSOP-24
footprint Model Name (Footprint not found)
pins: 1 AVSS, 2 DVDD, 3 ~{ALARM} (out), 4 GND, 5 CLR_SEL (in), 6 CLR (in), 7 LATCH (in), 8 SCLK (in), 9 DIN (in), 10 SDO (out), 11 GND, 12 GND, 13 I-SETR (in), 14 REFOUT (out), 15 REFIN (in), 16 DVDD_EN (in), 17 CMP (in), 18 HART_IN (in), 19 IOUT (out), 20 BOOST (out), 21 VOUT (out), 22 +VSENSE (in), 23 -VSENSE (in), 24 AVDD, THERMAL_PAD hidden to 1

## DCP022405U
designator U?
Miniature,  2W,  Isolated  UNREGULATED  DC/DC  CONVERTERS; value: DCP022405U
footprint SOP28
pins: 1 Vs (in), 2 GND, 3 GND, 12 GND, 13 +Vout (power), 14 NC (power), 15 NC, 16 NC, 17 NC, 26 NC, 27 NC, 28 SYNC

## DCP022415D
designator U?, comment DCP022415DU
Miniature,  2W,  Isolated  UNREGULATED  DC/DC  CONVERTERS; value: DCP022415DU
footprint SOP28
pins: 1 Vs (in), 2 GND, 3 GND, 12 GND, 13 +Vout (power), 14 -Vout (power), 15 NC, 16 NC, 17 NC, 26 NC, 27 NC, 28 SYNC

## DCW03A-12
designator U?
value: DCW03A-12
footprint DCW03 (3W DC-DC Regulated Dual Output Converter)
pins: 2 -Vin (power), 3 -Vin (power), 9 COM (power), 11 -Vout (power), 14 +Vout (power), 16 COM (power), 22 +Vin (power), 23 +Vin (power)

## DF06S
designator VD?
value: DF06S
footprint DFS
pins: 1 + (power), 2 - (power), 3 ~ (power), 4 ~ (power)

## dht22
designator *
temperature humidity sensor
pins: 1 Vdd, 2 Vout, 4 GND

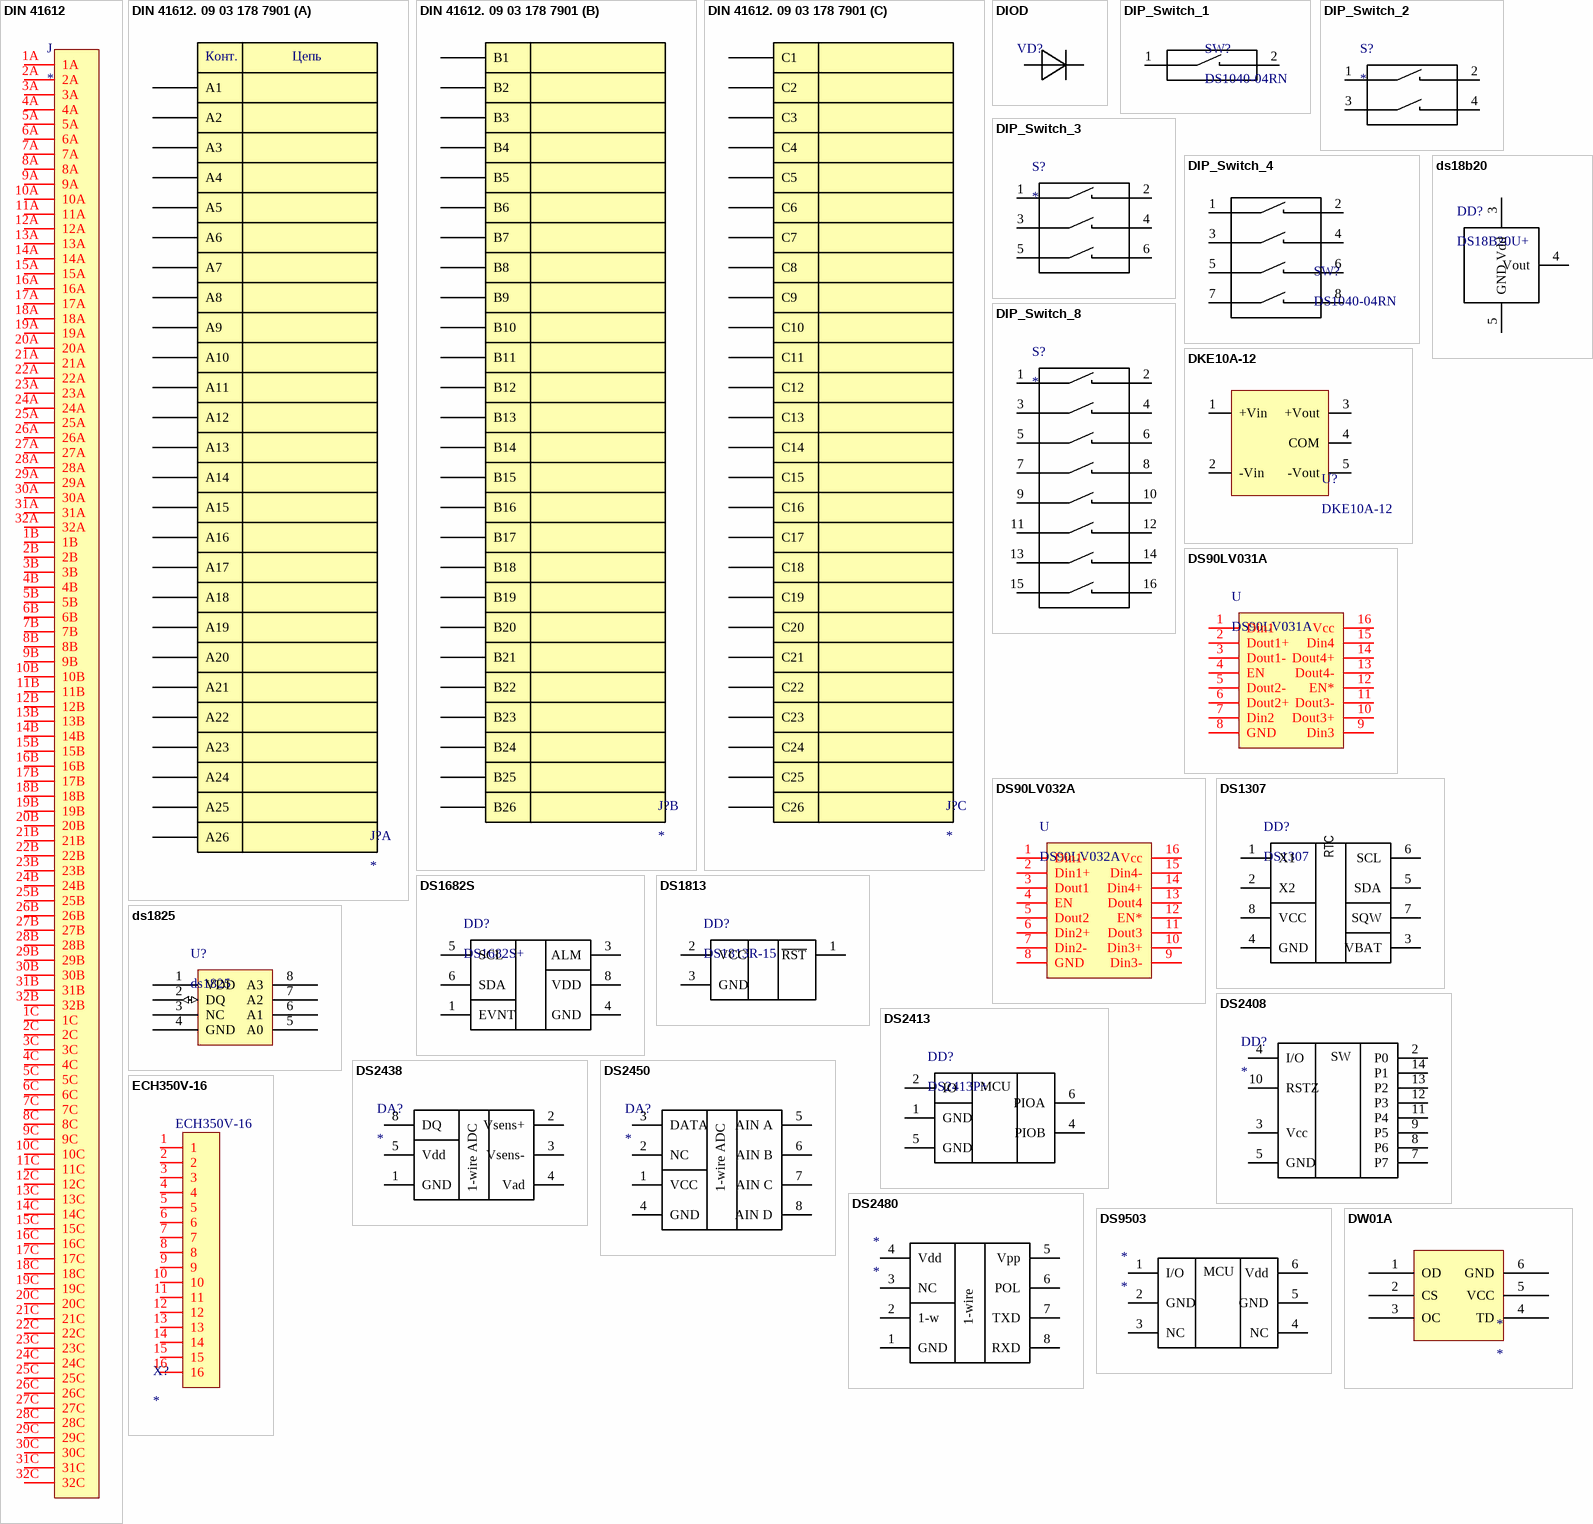
[diagram p13: symbols DIN 41612 to ECH350V-16]

## DIN 41612
designator J
pins: 1A, 1B, 1C, 2A, 2B, 2C, 3A, 3B, 3C, 4A, 4B, 4C, 5A, 5B, 5C, 6A, 6B, 6C, 7A, 7B, 7C, 8A, 8B, 8C, 9A, 9B, 9C, 10A, 10B, 10C, 11A, 11B, 11C, 12A, 12B, 12C, 13A, 13B, 13C, 14A, 14B, 14C, 15A, 15B, 15C, 16A, 16B, 16C, 17A, 17B, 17C, 18A, 18B, 18C, 19A, 19B, 19C, 20A, 20B, 20C, 21A, 21B, 21C, 22A, 22B, 22C, 23A, 23B, 23C, 24A, 24B, 24C, 25A, 25B, 25C, 26A, 26B, 26C, 27A, 27B, 27C, 28A, 28B, 28C, 29A, 29B, 29C, 30A, 30B, 30C, 31A, 31B, 31C, 32A, 32B, 32C

## DIN 41612. 09 03 178 7901
designator J?
footprint DIN 41612. 09 03 178 7901
part A pins: A1, A2, A3, A4, A5, A6, A7, A8, A9, A10, A11, A12, A13, A14, A15, A16, A17, A18, A19, A20, A21, A22, A23, A24, A25, A26
part B pins: B1, B2, B3, B4, B5, B6, B7, B8, B9, B10, B11, B12, B13, B14, B15, B16, B17, B18, B19, B20, B21, B22, B23, B24, B25, B26
part C pins: C1, C2, C3, C4, C5, C6, C7, C8, C9, C10, C11, C12, C13, C14, C15, C16, C17, C18, C19, C20, C21, C22, C23, C24, C25, C26
part A text: Конт.; Цепь

## DIOD
designator VD?  (value not drawn)
Диод; value: *
footprint SOT-23_diode
footprint SMA DIOD
footprint DO-214AA
footprint DO-214AB(SMC)
pins: 1 A, 2 K

## DIP_Switch_1
designator SW?, comment DS1040-04RN
rus_value: ВДМ1-4; value: DS1040-04RN
footprint DIP_Switch_1 (DS1040-01)
pins: 1, 2

## DIP_Switch_2
designator S?
value: DS1040-02RN; value: SWD1-3 (ВДМ1-3)
footprint DIP_Switch_2
pins: 1, 2, 3, 4

## DIP_Switch_3
designator S?
value: DS1040-03RN; value: SWD1-3 (ВДМ1-3)
footprint DIP_Switch_3
pins: 1, 2, 3, 4, 5, 6

## DIP_Switch_4
designator SW?, comment DS1040-04RN
rus_value: ВДМ1-4; value: DS1040-04RN
footprint DIP_Switch_4 (Footprint not found)
pins: 1, 2, 3, 4, 5, 6, 7, 8

## DIP_Switch_8
designator S?
value: DS1040-08RN; value: SWD1-8 (ВДМ1-8)
footprint DIP_Switch_8
pins: 1, 2, 3, 4, 5, 6, 7, 8, 9, 10, 11, 12, 13, 14, 15, 16

## DKE10A-12
designator U?
value: DKE10A-12
footprint DKE10A-12
pins: 1 +Vin, 2 -Vin, 3 +Vout, 4 COM, 5 -Vout

## ds18b20
designator DD?, comment DS18B20U+
DigTermosensor; value: DS18B20U+
footprint uSOP8
pins: 3 Vdd, 4 Vout, 5 GND

## DS90LV031A
designator U
footprint SOP16
pins: 1 Din1, 2 Dout1+, 3 Dout1-, 4 EN, 5 Dout2-, 6 Dout2+, 7 Din2, 8 GND, 9 Din3, 10 Dout3+, 11 Dout3-, 12 EN*, 13 Dout4-, 14 Dout4+, 15 Din4, 16 Vcc

## DS90LV032A
designator U
footprint SOP16
pins: 1 Din1-, 2 Din1+, 3 Dout1, 4 EN, 5 Dout2, 6 Din2+, 7 Din2-, 8 GND, 9 Din3-, 10 Din3+, 11 Dout3, 12 EN*, 13 Dout4, 14 Din4+, 15 Din4-, 16 Vcc

## DS1307
designator DD?
Real-time clock i2C; value: DS1307
footprint SOIC8
pins: 1 X1, 2 X2, 3 VBAT, 4 GND, 5 SDA, 6 SCL, 7 SQW, 8 VCC
text: RTC

## DS1682S
designator DD?, comment DS1682S+
Total-Elapsed-Time Recorderwith Alarm; value: DS1682S+; rus_value: DS1682S+
footprint SO8 (SOIC, 8-Leads, Body 4.9x3.9mm, Pitch 1.27mm, IPC Medium Density)
pins: 1 EVNT, 3 ALM, 4 GND, 5 SCL, 6 SDA, 8 VDD

## DS1813
designator DD?, comment DS1813R-15
5V EconoReset; value: DS1813R-15
footprint SOT-23
pins: 1 ~{RST}, 2 VCC, 3 GND

## ds1825
designator U?
DigTermosensor; value: ds1825
footprint uSOP8
pins: 1 VDD (power), 2 DQ (io), 3 NC, 4 GND (power), 5 A0 (power), 6 A1, 7 A2, 8 A3

## DS2408
designator DD?
1-wire 8x ключ; value: DS2408
footprint SO16
pins: 2 P0, 3 Vcc, 4 I/O, 5 GND, 7 P7, 8 P6, 9 P5, 10 RSTZ, 11 P4, 12 P3, 13 P2, 14 P1
text: SW

## DS2413
designator DD?, comment DS2413P+
1-Wire Dual Channel   Addressable Switch; value: DS2413P+
footprint TSOC-6
pins: 1 GND, 2 IO, 4 PIOB, 5 GND, 6 PIOA
text: MCU

## DS2438
designator DA?
1-wire Battery monitor, adc; value: DS2438
footprint SOIC8
pins: 1 GND, 2 Vsens+, 3 Vsens-, 4 Vad, 5 Vdd, 8 DQ
text: 1-wire ADC

## DS2450
designator DA?
1-wire ADC
pins: 1 VCC, 2 NC, 3 DATA, 4 GND, 5 AIN A, 6 AIN B, 7 AIN C, 8 AIN D

## DS2480
designator *
pins: 1 GND, 2 1-w, 3 NC, 4 Vdd, 5 Vpp, 6 POL, 7 TXD, 8 RXD
text: 1-wire

## DS9503
designator *
pins: 1 I/O, 2 GND, 3 NC, 4 NC, 5 GND, 6 Vdd
text: MCU

## DW01A
designator *
footprint SOT-23-6 (SOT-23 5pin)
pins: 1 OD, 2 CS, 3 OC, 4 TD, 5 VCC, 6 GND

## ECH350V-16
designator X?
pins: 1, 2, 3, 4, 5, 6, 7, 8, 9, 10, 11, 12, 13, 14, 15, 16

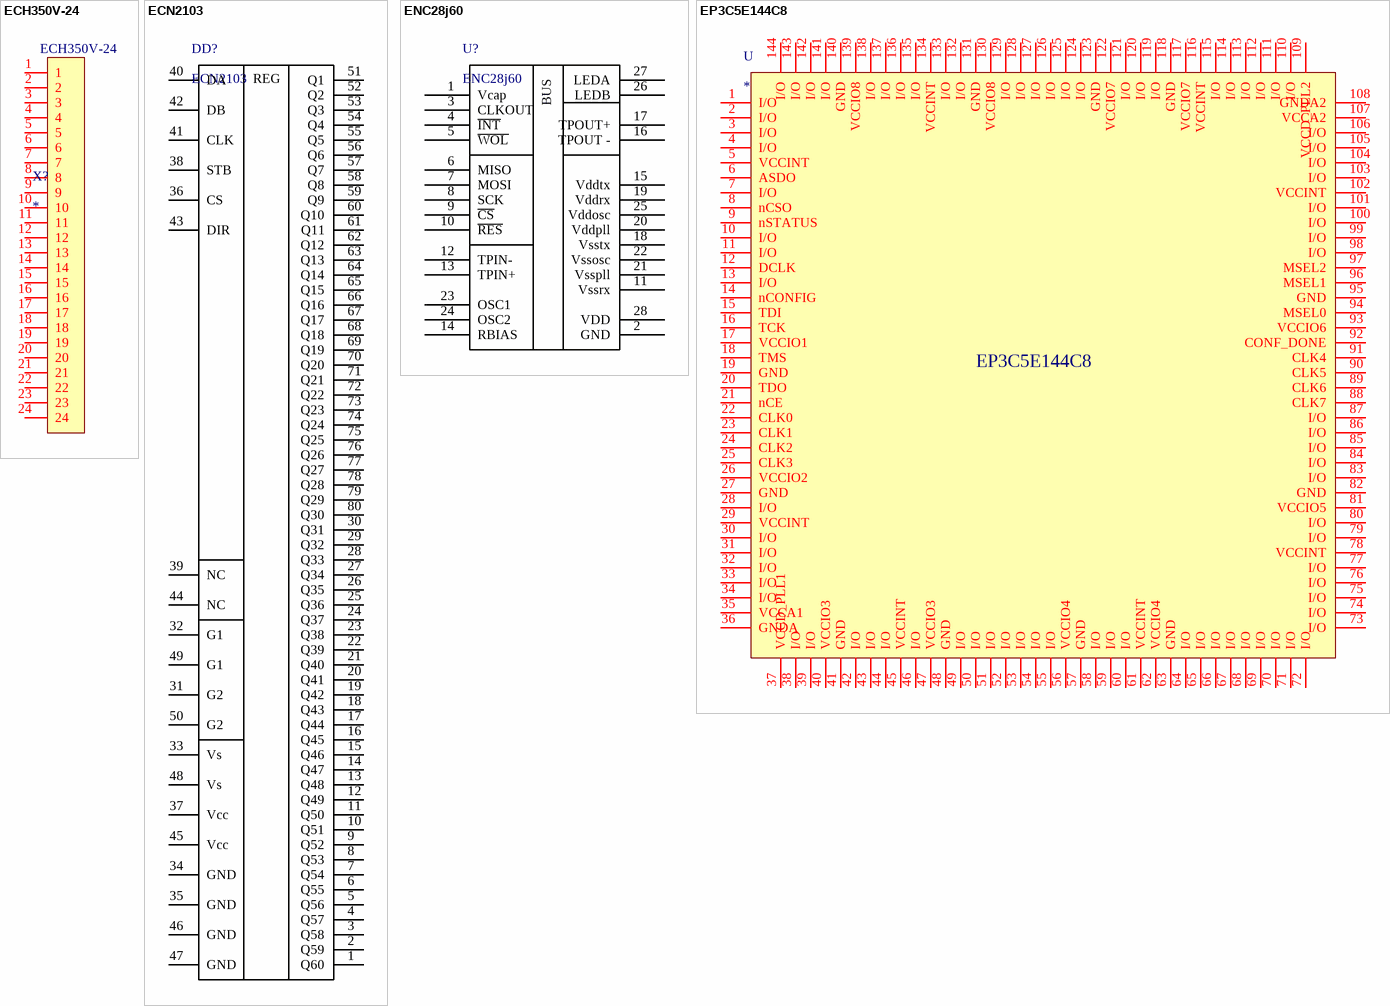
[diagram p14: symbols ECH350V-24 to EP3C5E144C8]

## ECH350V-24
designator X?
pins: 1, 2, 3, 4, 5, 6, 7, 8, 9, 10, 11, 12, 13, 14, 15, 16, 17, 18, 19, 20, 21, 22, 23, 24

## ECN2103
designator DD?
value: ECN2103
pins: 1 Q60, 2 Q59, 3 Q58, 4 Q57, 5 Q56, 6 Q55, 7 Q54, 8 Q53, 9 Q52, 10 Q51, 11 Q50, 12 Q49, 13 Q48, 14 Q47, 15 Q46, 16 Q45, 17 Q44, 18 Q43, 19 Q42, 20 Q41, 21 Q40, 22 Q39, 23 Q38, 24 Q37, 25 Q36, 26 Q35, 27 Q34, 28 Q33, 29 Q32, 30 Q31, 31 G2, 32 G1, 33 Vs, 34 GND, 35 GND, 36 CS, 37 Vcc, 38 STB, 39 NC, 40 DA, 41 CLK, 42 DB, 43 DIR, 44 NC, 45 Vcc, 46 GND, 47 GND, 48 Vs, 49 G1, 50 G2, 51 Q1, 52 Q2, 53 Q3, 54 Q4, 55 Q5, 56 Q6, 57 Q7, 58 Q8, 59 Q9, 60 Q10, 61 Q11, 62 Q12, 63 Q13, 64 Q14, 65 Q15, 66 Q16, 67 Q17, 68 Q18, 69 Q19, 70 Q20, 71 Q21, 72 Q22, 73 Q23, 74 Q24, 75 Q25, 76 Q26, 77 Q27, 78 Q28, 79 Q29, 80 Q30
text: REG

## ENC28j60
designator U?
footprint SOIC28_300mil
pins: 1 Vcap, 2 GND, 3 CLKOUT, 4 ~{INT}, 5 ~{WOL}, 6 MISO, 7 MOSI, 8 SCK, 9 ~{CS}, 10 ~{RES}, 11 Vssrx, 12 TPIN-, 13 TPIN+, 14 RBIAS, 15 Vddtx, 16 TPOUT -, 17 TPOUT+, 18 Vsstx, 19 Vddrx, 20 Vddpll, 21 Vsspll, 22 Vssosc, 23 OSC1, 24 OSC2, 25 Vddosc, 26 LEDB, 27 LEDA, 28 VDD
text: BUS

## EP3C5E144C8
designator U
footprint TQFP144_Cyclone3
pins: 1 I/O, 2 I/O, 3 I/O, 4 I/O, 5 VCCINT, 6 ASDO, 7 I/O, 8 nCSO, 9 nSTATUS, 10 I/O, 11 I/O, 12 DCLK, 13 I/O, 14 nCONFIG, 15 TDI, 16 TCK, 17 VCCIO1, 18 TMS, 19 GND, 20 TDO, 21 nCE, 22 CLK0, 23 CLK1, 24 CLK2, 25 CLK3, 26 VCCIO2, 27 GND, 28 I/O, 29 VCCINT, 30 I/O, 31 I/O, 32 I/O, 33 I/O, 34 I/O, 35 VCCA1, 36 GNDA, 37 VCCD_PLL1, 38 I/O, 39 I/O, 40 VCCIO3, 41 GND, 42 I/O, 43 I/O, 44 I/O, 45 VCCINT, 46 I/O, 47 VCCIO3, 48 GND, 49 I/O, 50 I/O, 51 I/O, 52 I/O, 53 I/O, 54 I/O, 55 I/O, 56 VCCIO4, 57 GND, 58 I/O, 59 I/O, 60 I/O, 61 VCCINT, 62 VCCIO4, 63 GND, 64 I/O, 65 I/O, 66 I/O, 67 I/O, 68 I/O, 69 I/O, 70 I/O, 71 I/O, 72 I/O, 73 I/O, 74 I/O, 75 I/O, 76 I/O, 77 I/O, 78 VCCINT, 79 I/O, 80 I/O, 81 VCCIO5, 82 GND, 83 I/O, 84 I/O, 85 I/O, 86 I/O, 87 I/O, 88 CLK7, 89 CLK6, 90 CLK5, 91 CLK4, 92 CONF_DONE, 93 VCCIO6, 94 MSEL0, 95 GND, 96 MSEL1, 97 MSEL2, 98 I/O, 99 I/O, 100 I/O, 101 I/O, 102 VCCINT, 103 I/O, 104 I/O, 105 I/O, 106 I/O, 107 VCCA2, 108 GNDA2, 109 VCCD_PLL2, 110 I/O, 111 I/O, 112 I/O, 113 I/O, 114 I/O, 115 I/O, 116 VCCINT, 117 VCCIO7, 118 GND, 119 I/O, 120 I/O, 121 I/O, 122 VCCIO7, 123 GND, 124 I/O, 125 I/O, 126 I/O, 127 I/O, 128 I/O, 129 I/O, 130 VCCIO8, 131 GND, 132 I/O, 133 I/O, 134 VCCINT, 135 I/O, 136 I/O, 137 I/O, 138 I/O, 139 VCCIO8, 140 GND, 141 I/O, 142 I/O, 143 I/O, 144 I/O, 145 GND hidden to GND

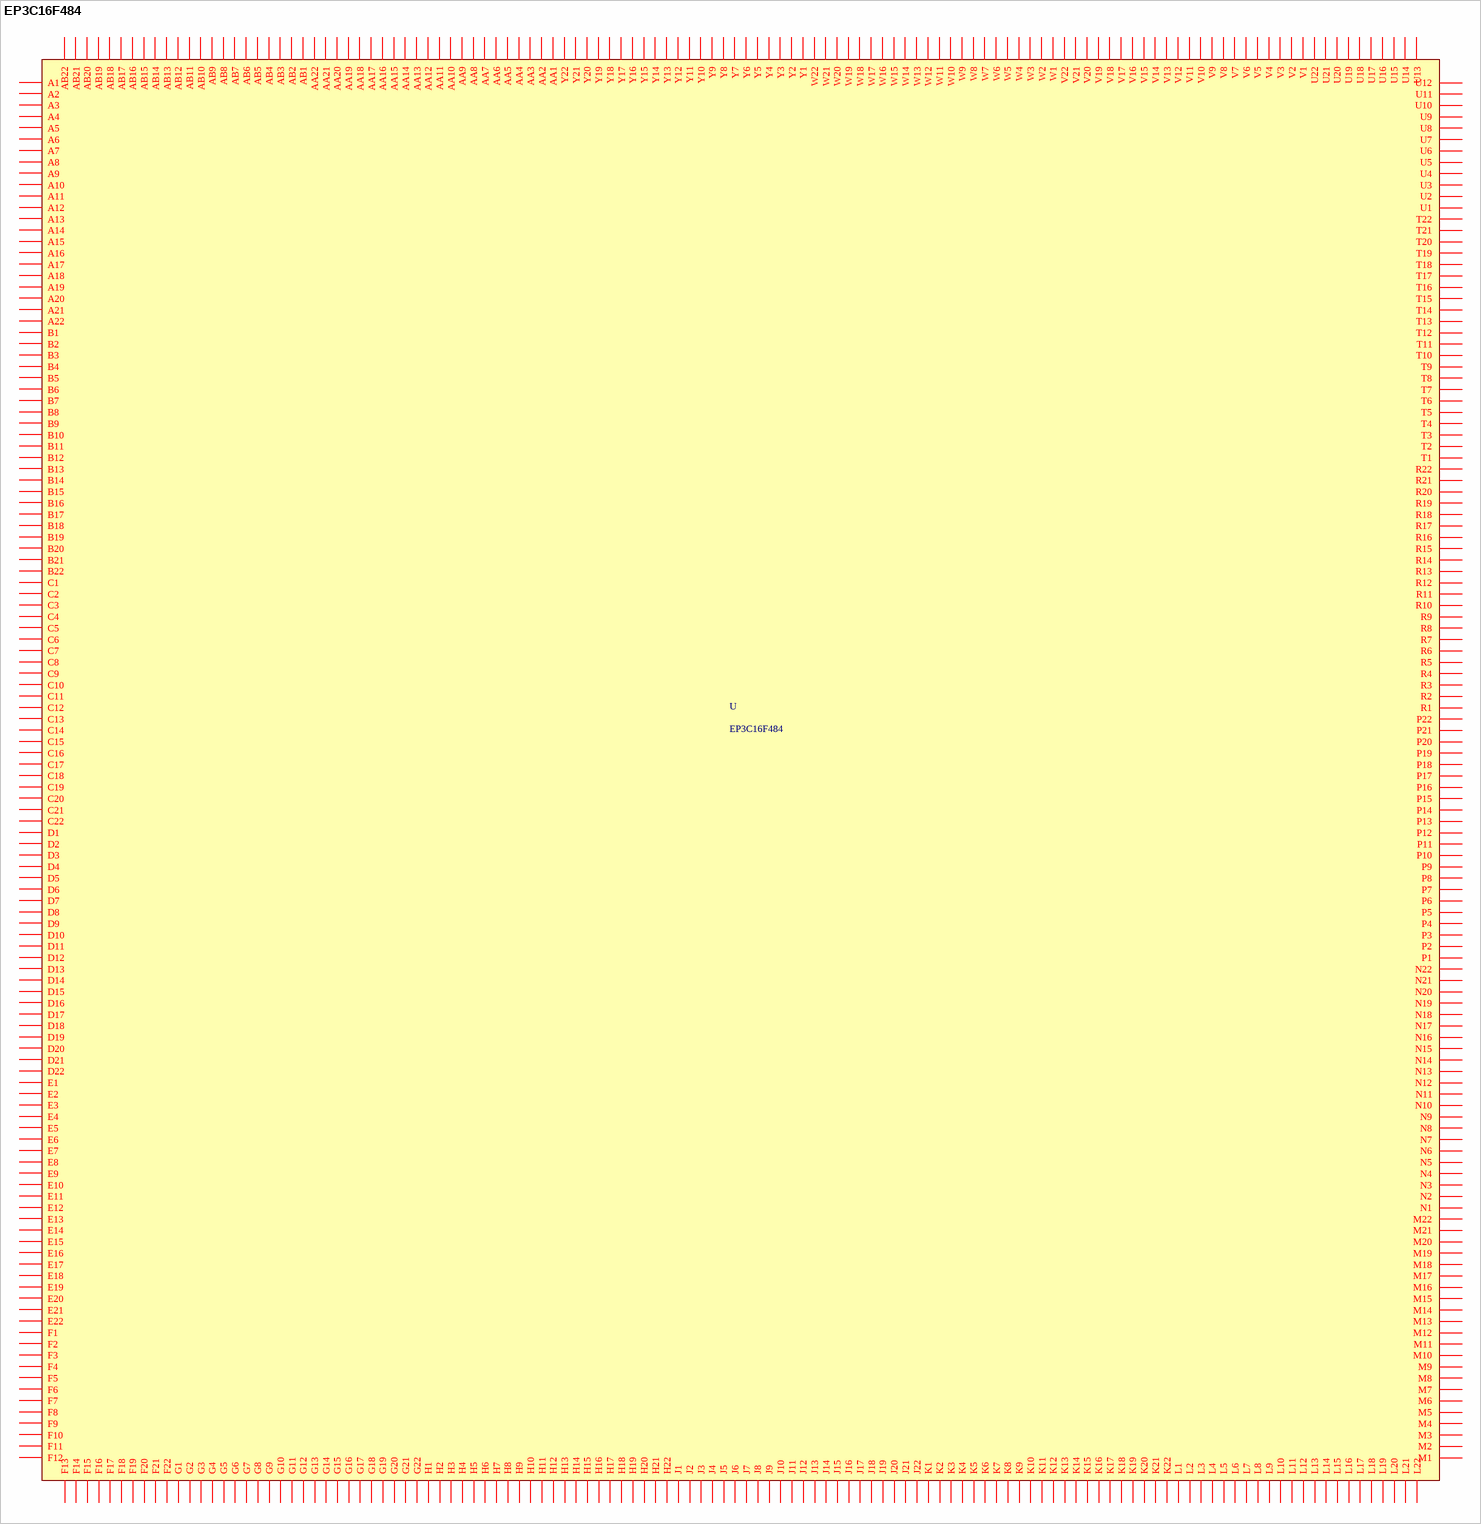
[diagram p15: symbol EP3C16F484]

## EP3C16F484
designator U
pins: A1, A2, A3, A4, A5, A6, A7, A8, A9, A10, A11, A12, A13, A14, A15, A16, A17, A18, A19, A20, A21, A22, AA1, AA2, AA3, AA4, AA5, AA6, AA7, AA8, AA9, AA10, AA11, AA12, AA13, AA14, AA15, AA16, AA17, AA18, AA19, AA20, AA21, AA22, AB1, AB2, AB3, AB4, AB5, AB6, AB7, AB8, AB9, AB10, AB11, AB12, AB13, AB14, AB15, AB16, AB17, AB18, AB19, AB20, AB21, AB22, B1, B2, B3, B4, B5, B6, B7, B8, B9, B10, B11, B12, B13, B14, B15, B16, B17, B18, B19, B20, B21, B22, C1, C2, C3, C4, C5, C6, C7, C8, C9, C10, C11, C12, C13, C14, C15, C16, C17, C18, C19, C20, C21, C22, D1, D2, D3, D4, D5, D6, D7, D8, D9, D10, D11, D12, D13, D14, D15, D16, D17, D18, D19, D20, D21, D22, E1, E2, E3, E4, E5, E6, E7, E8, E9, E10, E11, E12, E13, E14, E15, E16, E17, E18, E19, E20, E21, E22, F1, F2, F3, F4, F5, F6, F7, F8, F9, F10, F11, F12, F13, F14, F15, F16, F17, F18, F19, F20, F21, F22, G1, G2, G3, G4, G5, G6, G7, G8, G9, G10, G11, G12, G13, G14, G15, G16, G17, G18, G19, G20, G21, G22, H1, H2, H3, H4, H5, H6, H7, H8, H9, H10, H11, H12, H13, H14, H15, H16, H17, H18, H19, H20, H21, H22, J1, J2, J3, J4, J5, J6, J7, J8] J8, J9, J10, J11, J12, J13, J14, J15, J16, J17, J18, J19, J20, J21, J22, K1, K2, K3, K4, K5, K6, K7, K8, K9, K10, K11, K12, K13, K14, K15, K16, K17, K18, K19, K20, K21, K22, L1, L2, L3, L4, L5, L6, L7, L8, L9, L10, L11, L12, L13, L14, L15, L16, L17, L18, L19, L20, L21, L22, M1, M2, M3, M4, M5, M6, M7, M8, M9, M10, M11, M12, M13, M14, M15, M16, M17, M18, M19, M20, M21, M22, N1, N2, N3, N4, N5, N6, N7, N8, N9, N10, N11, N12, N13, N14, N15, N16, N17, N18, N19, N20, N21, N22, P1, P2, P3, P4, P5, P6, P7, P8, P9, P10, P11, P12, P13, P14, P15, P16, P17, P18, P19, P20, P21, P22, R1, R2, R3, R4, R5, R6, R7, R8, R9, R10, R11, R12, R13, R14, R15, R16, R17, R18, R19, R20, R21, R22, T1, T2, T3, T4, T5, T6, T7, T8, T9, T10, T11, T12, T13, T14, T15, T16, T17, T18, T19, T20, T21, T22, U1, U2, U3, U4, U5, U6, U7, U8, U9, U10, U11, U12, U13, U14, U15, U16, U17, U18, U19, U20, U21, U22, V1, V2, V3, V4, V5, V6, V7, V8, V9, V10, V11, V12, V13, V14, V15, V16, V17, V18, V19, V20, V21, V22, W1, W2, W3, W4, W6, W7, W8, W9, W10, W11, W12, W13, W14, W15, W16, W17, W18, W19, W20, W21, W22, W% W5, Y1, Y2, Y3, Y4, Y5, Y6, Y7, Y8, Y9, Y10, Y11, Y12, Y13, Y14, Y15, Y16, Y17, Y18, Y19, Y20, Y21, Y22

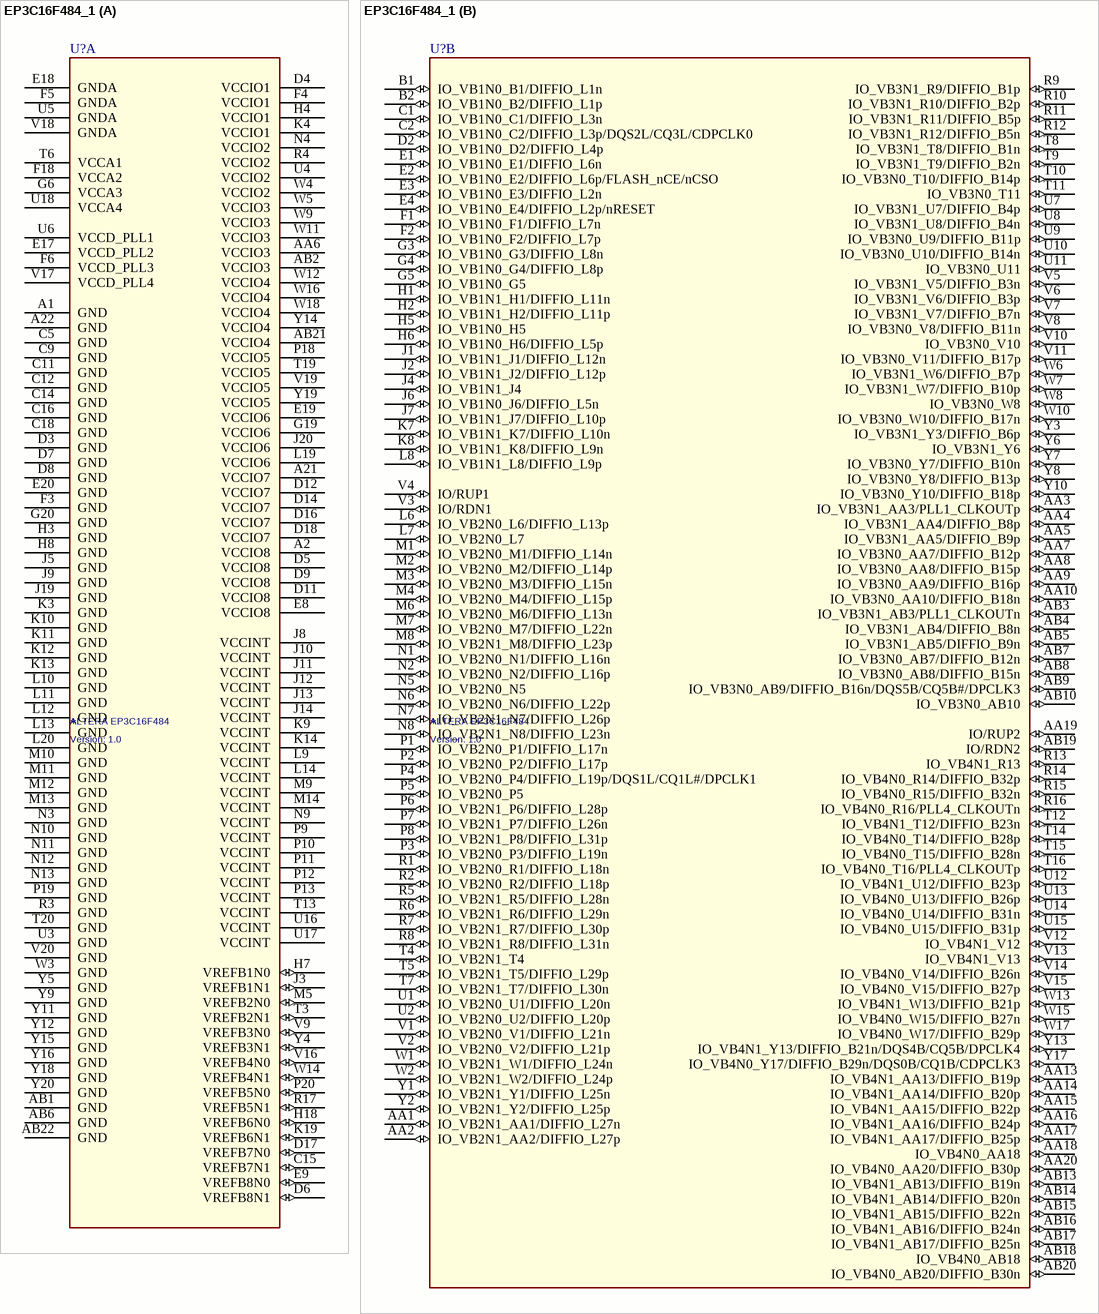
[diagram p16: symbol EP3C16F484_1]

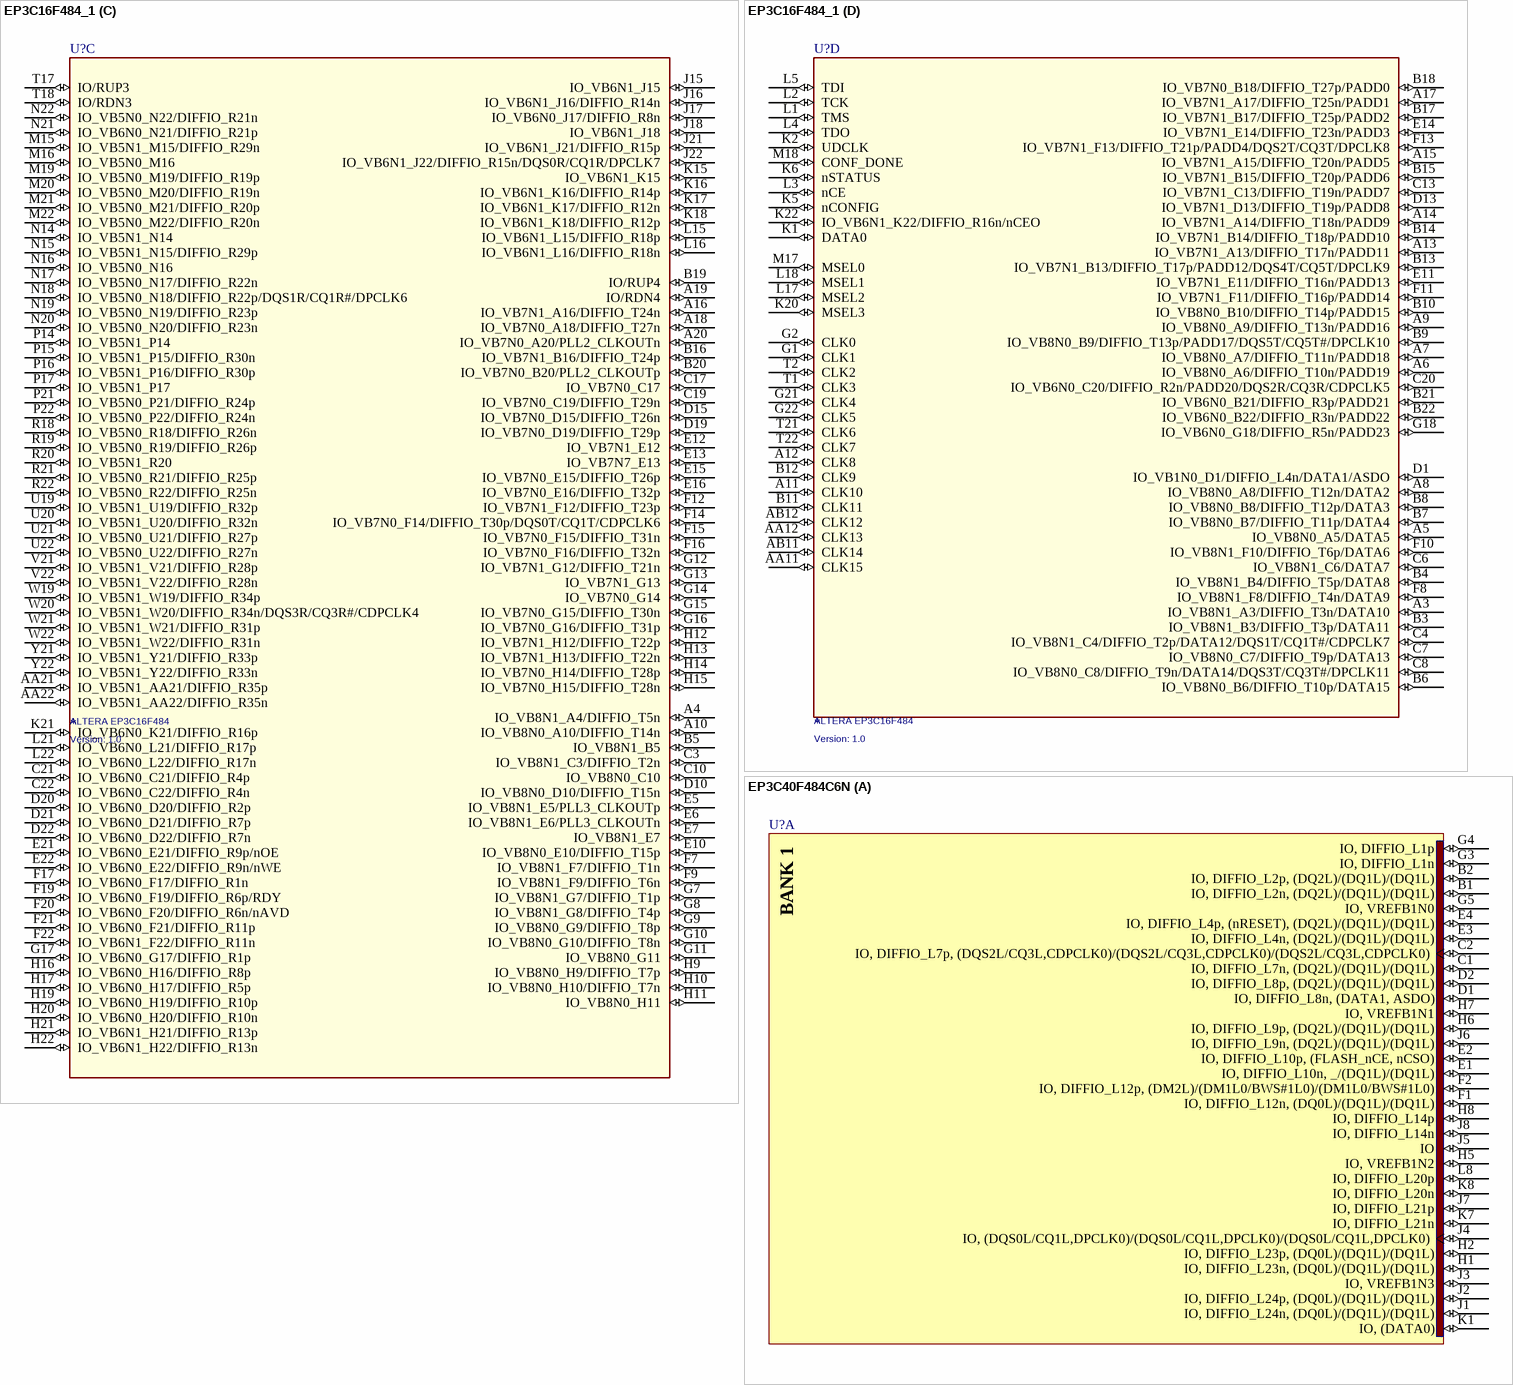
[diagram p17: symbols EP3C16F484_1 to EP3C40F484C6N]

## EP3C16F484_1
designator U?  Device: ALTERA EP3C16F484  Version: 1.0
Date: June 11 2007
part A pins: A1 GND (power), A2 VCCIO8 (power), A21 VCCIO7 (power), A22 GND (power), AA6 VCCIO3 (power), AB1 GND (power), AB2 VCCIO3 (power), AB6 GND (power), AB21 VCCIO4 (power), AB22 GND (power), C5 GND (power), C9 GND (power), C11 GND (power), C12 GND (power), C14 GND (power), C15 VREFB7N1 (io), C16 GND (power), C18 GND (power), D3 GND (power), D4 VCCIO1 (power), D5 VCCIO8 (power), D6 VREFB8N1 (io), D7 GND (power), D8 GND (power), D9 VCCIO8 (power), D11 VCCIO8 (power), D12 VCCIO7 (power), D14 VCCIO7 (power), D16 VCCIO7 (power), D17 VREFB7N0 (io), D18 VCCIO7 (power), E8 VCCIO8 (power), E9 VREFB8N0 (io), E17 VCCD_PLL2 (power), E18 GNDA (power), E19 VCCIO6 (power), E20 GND (power), F3 GND (power), F4 VCCIO1 (power), F5 GNDA (power), F6 VCCD_PLL3 (power), F18 VCCA2 (power), G6 VCCA3 (power), G19 VCCIO6 (power), G20 GND (power), H3 GND (power), H4 VCCIO1 (power), H7 VREFB1N0 (io), H8 GND (power), H18 VREFB6N0 (io), J3 VREFB1N1 (io), J5 GND (power), J8 VCCINT (power), J9 GND (power), J10 VCCINT (power), J11 VCCINT (power), J12 VCCINT (power), J13 VCCINT (power), J14 VCCINT (power), J19 GND (power), J20 VCCIO6 (power), K3 GND (power), K4 VCCIO1 (power), K9 VCCINT (power), K10 GND (power), K11 GND (power), K12 GND (power), K13 GND (power), K14 VCCINT (power), K19 VREFB6N1 (io), L9 VCCINT (power), L10 GND (power), L11 GND (power), L12 GND (power), L13 GND (power), L14 VCCINT (power), L19 VCCIO6 (power), L20 GND (power), M5 VREFB2N0 (io), M9 VCCINT (power), M10 GND (power), M11 GND (power), M12 GND (power), M13 GND (power), M14 VCCINT (power), N3 GND (power), N4 VCCIO2 (power), N9 VCCINT (power), N10 GND (power), N11 GND (power), N12 GND (power), N13 GND (power), P9 VCCINT (power), P10 VCCINT (power), P11 VCCINT (power), P12 VCCINT (power), P13 VCCINT (power), P18 VCCIO5 (power), P19 GND (power), P20 VREFB5N0 (io), R3 GND (power), R4 VCCIO2 (power), R17 VREFB5N1 (io), T3 VREFB2N1 (io), T6 VCCA1 (power), T13 VCCINT (power), T19 VCCIO5 (power), T20 GND (power), U3 GND (power), U4 VCCIO2 (power), U5 GNDA (power), U6 VCCD_PLL1 (power), U16 VCCINT (power), U17 VCCINT (power), U18 VCCA4 (power), V9 VREFB3N0 (io), V16 VREFB4N0 (io), V17 VCCD_PLL4 (power), V18 GNDA (power), V19 VCCIO5 (power), V20 GND (power), W3 GND (power), W4 VCCIO2 (power), W5 VCCIO3 (power), W9 VCCIO3 (power), W11 VCCIO3 (power), W12 VCCIO4 (power), W14 VREFB4N1 (io), W16 VCCIO4 (power), W18 VCCIO4 (power), Y4 VREFB3N1 (io), Y5 GND (power), Y9 GND (power), Y11 GND (power), Y12 GND (power), Y14 VCCIO4 (power), Y15 GND (power), Y16 GND (power), Y18 GND (power), Y19 VCCIO5 (power), Y20 GND (power)
part B pins: AA1 IO_VB2N1_AA1/DIFFIO_L27n (io), AA2 IO_VB2N1_AA2/DIFFIO_L27p (io), AA3 IO_VB3N1_AA3/PLL1_CLKOUTp (io), AA4 IO_VB3N1_AA4/DIFFIO_B8p (io), AA5 IO_VB3N1_AA5/DIFFIO_B9p (io), AA7 IO_VB3N0_AA7/DIFFIO_B12p (io), AA8 IO_VB3N0_AA8/DIFFIO_B15p (io), AA9 IO_VB3N0_AA9/DIFFIO_B16p (io), AA10 IO_VB3N0_AA10/DIFFIO_B18n (io), AA13 IO_VB4N1_AA13/DIFFIO_B19p (io), AA14 IO_VB4N1_AA14/DIFFIO_B20p (io), AA15 IO_VB4N1_AA15/DIFFIO_B22p (io), AA16 IO_VB4N1_AA16/DIFFIO_B24p (io), AA17 IO_VB4N1_AA17/DIFFIO_B25p (io), AA18 IO_VB4N0_AA18 (io), AA19 IO/RUP2 (io), AA20 IO_VB4N0_AA20/DIFFIO_B30p (io), AB3 IO_VB3N1_AB3/PLL1_CLKOUTn (io), AB4 IO_VB3N1_AB4/DIFFIO_B8n (io), AB5 IO_VB3N1_AB5/DIFFIO_B9n (io), AB7 IO_VB3N0_AB7/DIFFIO_B12n (io), AB8 IO_VB3N0_AB8/DIFFIO_B15n (io), AB9 IO_VB3N0_AB9/DIFFIO_B16n/DQS5B/CQ5B#/DPCLK3 (io), AB10 IO_VB3N0_AB10 (io), AB13 IO_VB4N1_AB13/DIFFIO_B19n (io), AB14 IO_VB4N1_AB14/DIFFIO_B20n (io), AB15 IO_VB4N1_AB15/DIFFIO_B22n (io), AB16 IO_VB4N1_AB16/DIFFIO_B24n (io), AB17 IO_VB4N1_AB17/DIFFIO_B25n (io), AB18 IO_VB4N0_AB18 (io), AB19 IO/RDN2 (io), AB20 IO_VB4N0_AB20/DIFFIO_B30n (io), B1 IO_VB1N0_B1/DIFFIO_L1n (io), B2 IO_VB1N0_B2/DIFFIO_L1p (io), C1 IO_VB1N0_C1/DIFFIO_L3n (io), C2 IO_VB1N0_C2/DIFFIO_L3p/DQS2L/CQ3L/CDPCLK0 (io), D2 IO_VB1N0_D2/DIFFIO_L4p (io), E1 IO_VB1N0_E1/DIFFIO_L6n (io), E2 IO_VB1N0_E2/DIFFIO_L6p/FLASH_nCE/nCSO (io), E3 IO_VB1N0_E3/DIFFIO_L2n (io), E4 IO_VB1N0_E4/DIFFIO_L2p/nRESET (io), F1 IO_VB1N0_F1/DIFFIO_L7n (io), F2 IO_VB1N0_F2/DIFFIO_L7p (io), G3 IO_VB1N0_G3/DIFFIO_L8n (io), G4 IO_VB1N0_G4/DIFFIO_L8p (io), G5 IO_VB1N0_G5 (io), H1 IO_VB1N1_H1/DIFFIO_L11n (io), H2 IO_VB1N1_H2/DIFFIO_L11p (io), H5 IO_VB1N0_H5 (io), H6 IO_VB1N0_H6/DIFFIO_L5p (io), J1 IO_VB1N1_J1/DIFFIO_L12n (io), J2 IO_VB1N1_J2/DIFFIO_L12p (io), J4 IO_VB1N1_J4 (io), J6 IO_VB1N0_J6/DIFFIO_L5n (io), J7 IO_VB1N1_J7/DIFFIO_L10p (io), K7 IO_VB1N1_K7/DIFFIO_L10n (io), K8 IO_VB1N1_K8/DIFFIO_L9n (io), L6 IO_VB2N0_L6/DIFFIO_L13p (io), L7 IO_VB2N0_L7 (io), L8 IO_VB1N1_L8/DIFFIO_L9p (io), M1 IO_VB2N0_M1/DIFFIO_L14n (io), M2 IO_VB2N0_M2/DIFFIO_L14p (io), M3 IO_VB2N0_M3/DIFFIO_L15n (io), M4 IO_VB2N0_M4/DIFFIO_L15p (io), M6 IO_VB2N0_M6/DIFFIO_L13n (io), M7 IO_VB2N0_M7/DIFFIO_L22n (io), M8 IO_VB2N1_M8/DIFFIO_L23p (io), N1 IO_VB2N0_N1/DIFFIO_L16n (io), N2 IO_VB2N0_N2/DIFFIO_L16p (io), N5 IO_VB2N0_N5 (io), N6 IO_VB2N0_N6/DIFFIO_L22p (io), N7 IO_VB2N1_N7/DIFFIO_L26p (io), N8 IO_VB2N1_N8/DIFFIO_L23n (io), P1 IO_VB2N0_P1/DIFFIO_L17n (io), P2 IO_VB2N0_P2/DIFFIO_L17p (io), P3 IO_VB2N0_P3/DIFFIO_L19n (io), P4 IO_VB2N0_P4/DIFFIO_L19p/DQS1L/CQ1L#/DPCLK1 (io), P5 IO_VB2N0_P5 (io), P6 IO_VB2N1_P6/DIFFIO_L28p (io), P7 IO_VB2N1_P7/DIFFIO_L26n (io), P8 IO_VB2N1_P8/DIFFIO_L31p (io), R1 IO_VB2N0_R1/DIFFIO_L18n (io), R2 IO_VB2N0_R2/DIFFIO_L18p (io), R5 IO_VB2N1_R5/DIFFIO_L28n (io), R6 IO_VB2N1_R6/DIFFIO_L29n (io), R7 IO_VB2N1_R7/DIFFIO_L30p (io), R8 IO_VB2N1_R8/DIFFIO_L31n (io), R9 IO_VB3N1_R9/DIFFIO_B1p (io), R10 IO_VB3N1_R10/DIFFIO_B2p (io), R11 IO_VB3N1_R11/DIFFIO_B5p (io), R12 IO_VB3N1_R12/DIFFIO_B5n (io), R13 IO_VB4N1_R13 (io), R14 IO_VB4N0_R14/DIFFIO_B32p (io), R15 IO_VB4N0_R15/DIFFIO_B32n (io), R16 IO_VB4N0_R16/PLL4_CLKOUTn (io), T4 IO_VB2N1_T4 (io), T5 IO_VB2N1_T5/DIFFIO_L29p (io), T7 IO_VB2N1_T7/DIFFIO_L30n (io), T8 IO_VB3N1_T8/DIFFIO_B1n (io), T9 IO_VB3N1_T9/DIFFIO_B2n (io), T10 IO_VB3N0_T10/DIFFIO_B14p (io), T11 IO_VB3N0_T11 (io), T12 IO_VB4N1_T12/DIFFIO_B23n (io), T14 IO_VB4N0_T14/DIFFIO_B28p (io), T15 IO_VB4N0_T15/DIFFIO_B28n (io), T16 IO_VB4N0_T16/PLL4_CLKOUTp (io), U1 IO_VB2N0_U1/DIFFIO_L20n (io), U2 IO_VB2N0_U2/DIFFIO_L20p (io), U7 IO_VB3N1_U7/DIFFIO_B4p (io), U8 IO_VB3N1_U8/DIFFIO_B4n (io), U9 IO_VB3N0_U9/DIFFIO_B11p (io), U10 IO_VB3N0_U10/DIFFIO_B14n (io), U11 IO_VB3N0_U11 (io), U12 IO_VB4N1_U12/DIFFIO_B23p (io), U13 IO_VB4N0_U13/DIFFIO_B26p (io), U14 IO_VB4N0_U14/DIFFIO_B31n (io), U15 IO_VB4N0_U15/DIFFIO_B31p (io), V1 IO_VB2N0_V1/DIFFIO_L21n (io), V2 IO_VB2N0_V2/DIFFIO_L21p (io), V3 IO/RDN1 (io), V4 IO/RUP1 (io), V5 IO_VB3N1_V5/DIFFIO_B3n (io), V6 IO_VB3N1_V6/DIFFIO_B3p (io), V7 IO_VB3N1_V7/DIFFIO_B7n (io), V8 IO_VB3N0_V8/DIFFIO_B11n (io), V10 IO_VB3N0_V10 (io), V11 IO_VB3N0_V11/DIFFIO_B17p (io), V12 IO_VB4N1_V12 (io), V13 IO_VB4N1_V13 (io), V14 IO_VB4N0_V14/DIFFIO_B26n (io), V15 IO_VB4N0_V15/DIFFIO_B27p (io), W1 IO_VB2N1_W1/DIFFIO_L24n (io), W2 IO_VB2N1_W2/DIFFIO_L24p (io), W6 IO_VB3N1_W6/DIFFIO_B7p (io), W7 IO_VB3N1_W7/DIFFIO_B10p (io), W8 IO_VB3N0_W8 (io), W10 IO_VB3N0_W10/DIFFIO_B17n (io), W13 IO_VB4N1_W13/DIFFIO_B21p (io), W15 IO_VB4N0_W15/DIFFIO_B27n (io), W17 IO_VB4N0_W17/DIFFIO_B29p (io), Y1 IO_VB2N1_Y1/DIFFIO_L25n (io), Y2 IO_VB2N1_Y2/DIFFIO_L25p (io), Y3 IO_VB3N1_Y3/DIFFIO_B6p (io), Y6 IO_VB3N1_Y6 (io), Y7 IO_VB3N0_Y7/DIFFIO_B10n (io), Y8 IO_VB3N0_Y8/DIFFIO_B13p (io), Y10 IO_VB3N0_Y10/DIFFIO_B18p (io), Y13 IO_VB4N1_Y13/DIFFIO_B21n/DQS4B/CQ5B/DPCLK4 (io), Y17 IO_VB4N0_Y17/DIFFIO_B29n/DQS0B/CQ1B/CDPCLK3 (io)
part C pins: A4 IO_VB8N1_A4/DIFFIO_T5n (io), A10 IO_VB8N0_A10/DIFFIO_T14n (io), A16 IO_VB7N1_A16/DIFFIO_T24n (io), A18 IO_VB7N0_A18/DIFFIO_T27n (io), A19 IO/RDN4 (io), A20 IO_VB7N0_A20/PLL2_CLKOUTn (io), AA21 IO_VB5N1_AA21/DIFFIO_R35p (io), AA22 IO_VB5N1_AA22/DIFFIO_R35n (io), B5 IO_VB8N1_B5 (io), B16 IO_VB7N1_B16/DIFFIO_T24p (io), B19 IO/RUP4 (io), B20 IO_VB7N0_B20/PLL2_CLKOUTp (io), C3 IO_VB8N1_C3/DIFFIO_T2n (io), C10 IO_VB8N0_C10 (io), C17 IO_VB7N0_C17 (io), C19 IO_VB7N0_C19/DIFFIO_T29n (io), C21 IO_VB6N0_C21/DIFFIO_R4p (io), C22 IO_VB6N0_C22/DIFFIO_R4n (io), D10 IO_VB8N0_D10/DIFFIO_T15n (io), D15 IO_VB7N0_D15/DIFFIO_T26n (io), D19 IO_VB7N0_D19/DIFFIO_T29p (io), D20 IO_VB6N0_D20/DIFFIO_R2p (io), D21 IO_VB6N0_D21/DIFFIO_R7p (io), D22 IO_VB6N0_D22/DIFFIO_R7n (io), E5 IO_VB8N1_E5/PLL3_CLKOUTp (io), E6 IO_VB8N1_E6/PLL3_CLKOUTn (io), E7 IO_VB8N1_E7 (io), E10 IO_VB8N0_E10/DIFFIO_T15p (io), E12 IO_VB7N1_E12 (io), E13 IO_VB7N7_E13 (io), E15 IO_VB7N0_E15/DIFFIO_T26p (io), E16 IO_VB7N0_E16/DIFFIO_T32p (io), E21 IO_VB6N0_E21/DIFFIO_R9p/nOE (io), E22 IO_VB6N0_E22/DIFFIO_R9n/nWE (io), F7 IO_VB8N1_F7/DIFFIO_T1n (io), F9 IO_VB8N1_F9/DIFFIO_T6n (io), F12 IO_VB7N1_F12/DIFFIO_T23p (io), F14 IO_VB7N0_F14/DIFFIO_T30p/DQS0T/CQ1T/CDPCLK6 (io), F15 IO_VB7N0_F15/DIFFIO_T31n (io), F16 IO_VB7N0_F16/DIFFIO_T32n (io), F17 IO_VB6N0_F17/DIFFIO_R1n (io), F19 IO_VB6N0_F19/DIFFIO_R6p/RDY (io), F20 IO_VB6N0_F20/DIFFIO_R6n/nAVD (io), F21 IO_VB6N0_F21/DIFFIO_R11p (io), F22 IO_VB6N1_F22/DIFFIO_R11n (io), G7 IO_VB8N1_G7/DIFFIO_T1p (io), G8 IO_VB8N1_G8/DIFFIO_T4p (io), G9 IO_VB8N0_G9/DIFFIO_T8p (io), G10 IO_VB8N0_G10/DIFFIO_T8n (io), G11 IO_VB8N0_G11 (io), G12 IO_VB7N1_G12/DIFFIO_T21n (io), G13 IO_VB7N1_G13 (io), G14 IO_VB7N0_G14 (io), G15 IO_VB7N0_G15/DIFFIO_T30n (io), G16 IO_VB7N0_G16/DIFFIO_T31p (io), G17 IO_VB6N0_G17/DIFFIO_R1p (io), H9 IO_VB8N0_H9/DIFFIO_T7p (io), H10 IO_VB8N0_H10/DIFFIO_T7n (io), H11 IO_VB8N0_H11 (io), H12 IO_VB7N1_H12/DIFFIO_T22p (io), H13 IO_VB7N1_H13/DIFFIO_T22n (io), H14 IO_VB7N0_H14/DIFFIO_T28p (io), H15 IO_VB7N0_H15/DIFFIO_T28n (io), H16 IO_VB6N0_H16/DIFFIO_R8p (io), H17 IO_VB6N0_H17/DIFFIO_R5p (io), H19 IO_VB6N0_H19/DIFFIO_R10p (io), H20 IO_VB6N0_H20/DIFFIO_R10n (io), H21 IO_VB6N1_H21/DIFFIO_R13p (io), H22 IO_VB6N1_H22/DIFFIO_R13n (io), J15 IO_VB6N1_J15 (io), J16 IO_VB6N1_J16/DIFFIO_R14n (io), J17 IO_VB6N0_J17/DIFFIO_R8n (io), J18 IO_VB6N1_J18 (io), J21 IO_VB6N1_J21/DIFFIO_R15p (io), J22 IO_VB6N1_J22/DIFFIO_R15n/DQS0R/CQ1R/DPCLK7 (io), K15 IO_VB6N1_K15 (io), K16 IO_VB6N1_K16/DIFFIO_R14p (io), K17 IO_VB6N1_K17/DIFFIO_R12n (io), K18 IO_VB6N1_K18/DIFFIO_R12p (io), K21 IO_VB6N0_K21/DIFFIO_R16p (io), L15 IO_VB6N1_L15/DIFFIO_R18p (io), L16 IO_VB6N1_L16/DIFFIO_R18n (io), L21 IO_VB6N0_L21/DIFFIO_R17p (io), L22 IO_VB6N0_L22/DIFFIO_R17n (io), M15 IO_VB5N1_M15/DIFFIO_R29n (io), M16 IO_VB5N0_M16 (io), M19 IO_VB5N0_M19/DIFFIO_R19p (io), M20 IO_VB5N0_M20/DIFFIO_R19n (io), M21 IO_VB5N0_M21/DIFFIO_R20p (io), M22 IO_VB5N0_M22/DIFFIO_R20n (io), N14 IO_VB5N1_N14 (io), N15 IO_VB5N1_N15/DIFFIO_R29p (io), N16 IO_VB5N0_N16 (io), N17 IO_VB5N0_N17/DIFFIO_R22n (io), N18 IO_VB5N0_N18/DIFFIO_R22p/DQS1R/CQ1R#/DPCLK6 (io), N19 IO_VB5N0_N19/DIFFIO_R23p (io), N20 IO_VB5N0_N20/DIFFIO_R23n (io), N21 IO_VB6N0_N21/DIFFIO_R21p (io), N22 IO_VB5N0_N22/DIFFIO_R21n (io), P14 IO_VB5N1_P14 (io), P15 IO_VB5N1_P15/DIFFIO_R30n (io), P16 IO_VB5N1_P16/DIFFIO_R30p (io), P17 IO_VB5N1_P17 (io), P21 IO_VB5N0_P21/DIFFIO_R24p (io), P22 IO_VB5N0_P22/DIFFIO_R24n (io), R18 IO_VB5N0_R18/DIFFIO_R26n (io), R19 IO_VB5N0_R19/DIFFIO_R26p (io), R20 IO_VB5N1_R20 (io), R21 IO_VB5N0_R21/DIFFIO_R25p (io), R22 IO_VB5N0_R22/DIFFIO_R25n (io), T17 IO/RUP3 (io), T18 IO/RDN3 (io), U19 IO_VB5N1_U19/DIFFIO_R32p (io), U20 IO_VB5N1_U20/DIFFIO_R32n (io), U21 IO_VB5N0_U21/DIFFIO_R27p (io), U22 IO_VB5N0_U22/DIFFIO_R27n (io), V21 IO_VB5N1_V21/DIFFIO_R28p (io), V22 IO_VB5N1_V22/DIFFIO_R28n (io), W19 IO_VB5N1_W19/DIFFIO_R34p (io), W20 IO_VB5N1_W20/DIFFIO_R34n/DQS3R/CQ3R#/CDPCLK4 (io), W21 IO_VB5N1_W21/DIFFIO_R31p (io), W22 IO_VB5N1_W22/DIFFIO_R31n (io), Y21 IO_VB5N1_Y21/DIFFIO_R33p (io), Y22 IO_VB5N1_Y22/DIFFIO_R33n (io)
part D pins: A3 IO_VB8N1_A3/DIFFIO_T3n/DATA10 (io), A5 IO_VB8N0_A5/DATA5 (io), A6 IO_VB8N0_A6/DIFFIO_T10n/PADD19 (io), A7 IO_VB8N0_A7/DIFFIO_T11n/PADD18 (io), A8 IO_VB8N0_A8/DIFFIO_T12n/DATA2 (io), A9 IO_VB8N0_A9/DIFFIO_T13n/PADD16 (io), A11 CLK10 (io), A12 CLK8 (io), A13 IO_VB7N1_A13/DIFFIO_T17n/PADD11 (io), A14 IO_VB7N1_A14/DIFFIO_T18n/PADD9 (io), A15 IO_VB7N1_A15/DIFFIO_T20n/PADD5 (io), A17 IO_VB7N1_A17/DIFFIO_T25n/PADD1 (io), AA11 CLK15 (io), AA12 CLK13 (io), AB11 CLK14 (io), AB12 CLK12 (io), B3 IO_VB8N1_B3/DIFFIO_T3p/DATA11 (io), B4 IO_VB8N1_B4/DIFFIO_T5p/DATA8 (io), B6 IO_VB8N0_B6/DIFFIO_T10p/DATA15 (io), B7 IO_VB8N0_B7/DIFFIO_T11p/DATA4 (io), B8 IO_VB8N0_B8/DIFFIO_T12p/DATA3 (io), B9 IO_VB8N0_B9/DIFFIO_T13p/PADD17/DQS5T/CQ5T#/DPCLK10 (io), B10 IO_VB8N0_B10/DIFFIO_T14p/PADD15 (io), B11 CLK11 (io), B12 CLK9 (io), B13 IO_VB7N1_B13/DIFFIO_T17p/PADD12/DQS4T/CQ5T/DPCLK9 (io), B14 IO_VB7N1_B14/DIFFIO_T18p/PADD10 (io), B15 IO_VB7N1_B15/DIFFIO_T20p/PADD6 (io), B17 IO_VB7N1_B17/DIFFIO_T25p/PADD2 (io), B18 IO_VB7N0_B18/DIFFIO_T27p/PADD0 (io), B21 IO_VB6N0_B21/DIFFIO_R3p/PADD21 (io), B22 IO_VB6N0_B22/DIFFIO_R3n/PADD22 (io), C4 IO_VB8N1_C4/DIFFIO_T2p/DATA12/DQS1T/CQ1T#/CDPCLK7 (io), C6 IO_VB8N1_C6/DATA7 (io), C7 IO_VB8N0_C7/DIFFIO_T9p/DATA13 (io), C8 IO_VB8N0_C8/DIFFIO_T9n/DATA14/DQS3T/CQ3T#/DPCLK11 (io), C13 IO_VB7N1_C13/DIFFIO_T19n/PADD7 (io), C20 IO_VB6N0_C20/DIFFIO_R2n/PADD20/DQS2R/CQ3R/CDPCLK5 (io), D1 IO_VB1N0_D1/DIFFIO_L4n/DATA1/ASDO (io), D13 IO_VB7N1_D13/DIFFIO_T19p/PADD8 (io), E11 IO_VB7N1_E11/DIFFIO_T16n/PADD13 (io), E14 IO_VB7N1_E14/DIFFIO_T23n/PADD3 (io), F8 IO_VB8N1_F8/DIFFIO_T4n/DATA9 (io), F10 IO_VB8N1_F10/DIFFIO_T6p/DATA6 (io), F11 IO_VB7N1_F11/DIFFIO_T16p/PADD14 (io), F13 IO_VB7N1_F13/DIFFIO_T21p/PADD4/DQS2T/CQ3T/DPCLK8 (io), G1 CLK1 (io), G2 CLK0 (io), G18 IO_VB6N0_G18/DIFFIO_R5n/PADD23 (io), G21 CLK4 (io), G22 CLK5 (io), K1 DATA0 (io), K2 UDCLK (io), K5 nCONFIG (io), K6 nSTATUS (io), K20 MSEL3 (io), K22 IO_VB6N1_K22/DIFFIO_R16n/nCEO (io), L1 TMS (io), L2 TCK (io), L3 nCE (io), L4 TDO (io), L5 TDI (io), L17 MSEL2 (io), L18 MSEL1 (io), M17 MSEL0 (io), M18 CONF_DONE (io), T1 CLK3 (io), T2 CLK2 (io), T21 CLK6 (io), T22 CLK7 (io)

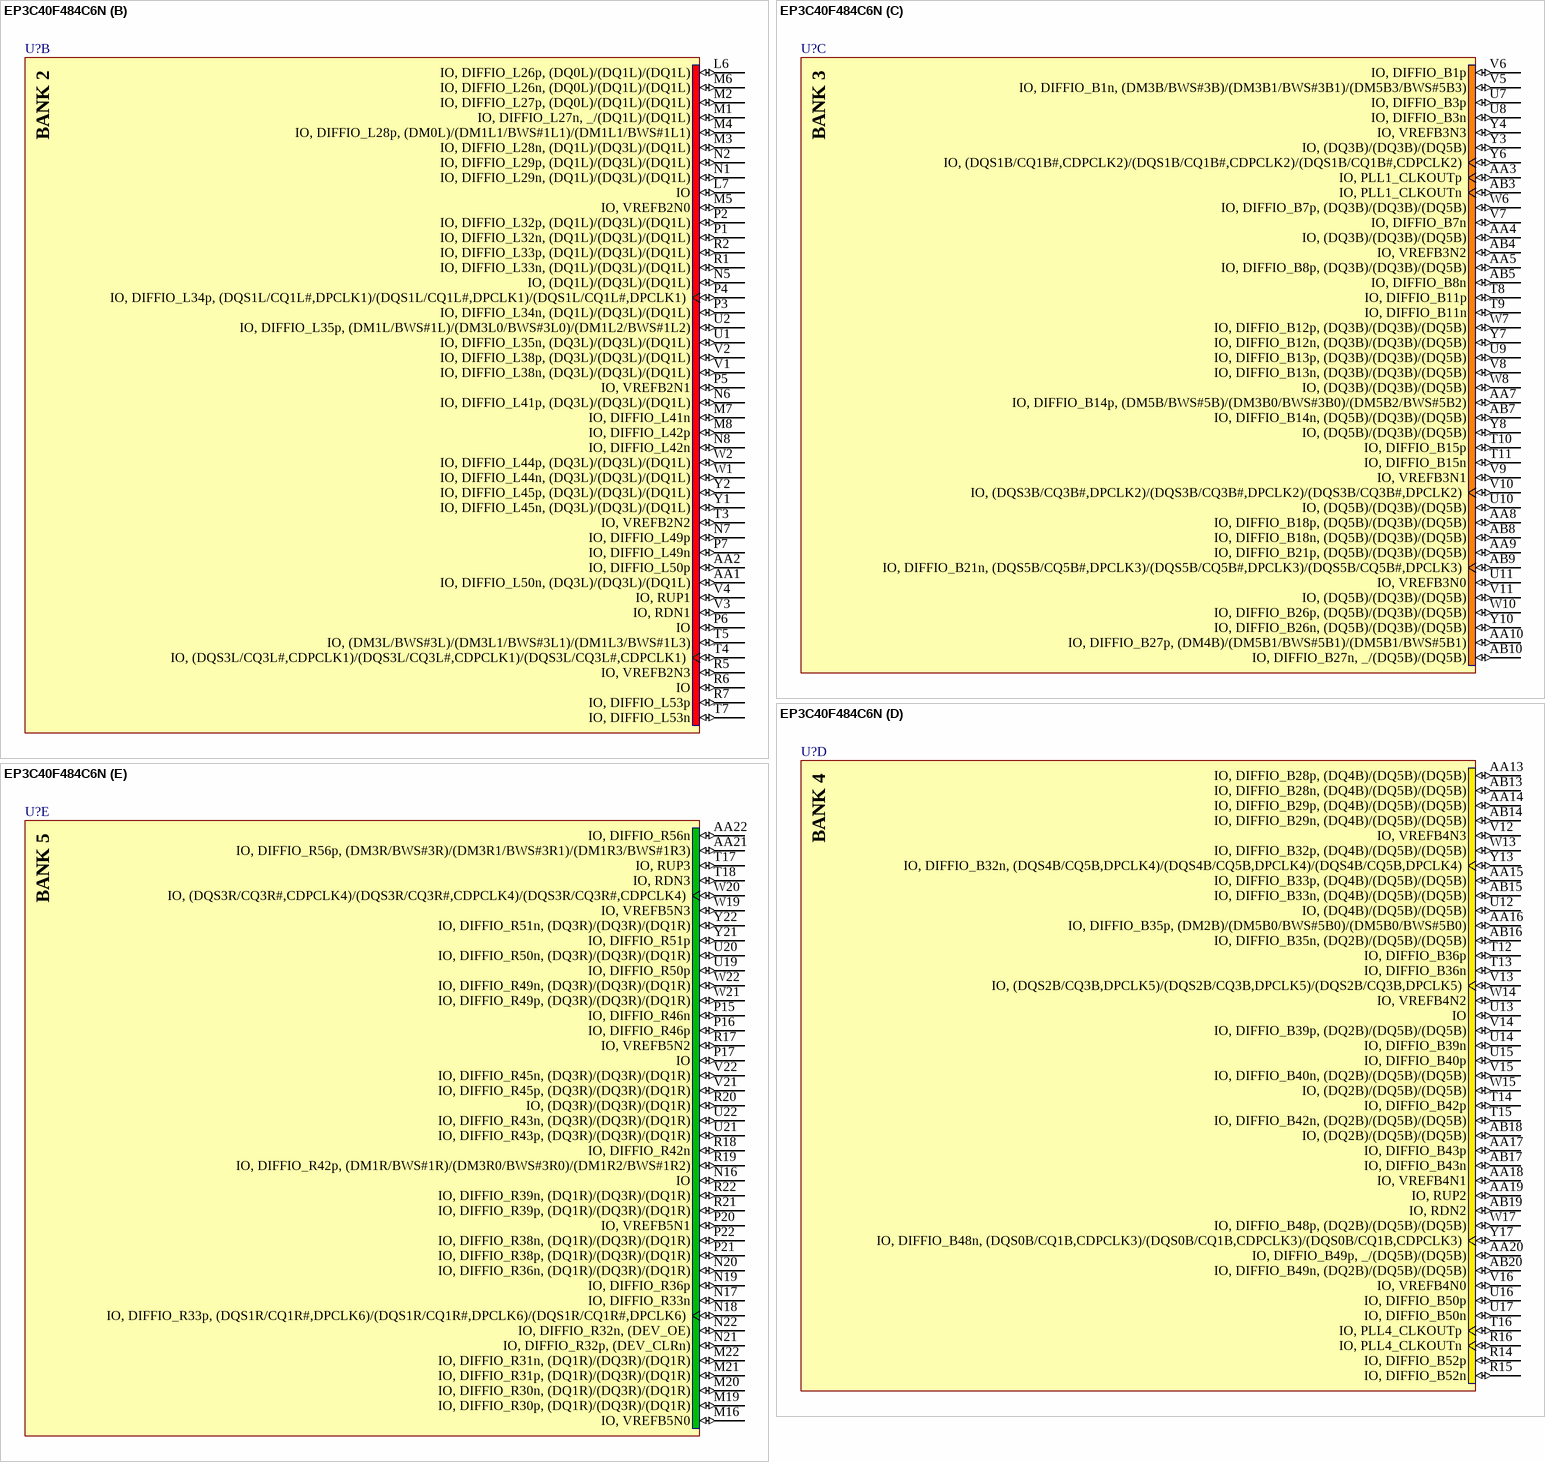
[diagram p18: symbol EP3C40F484C6N]

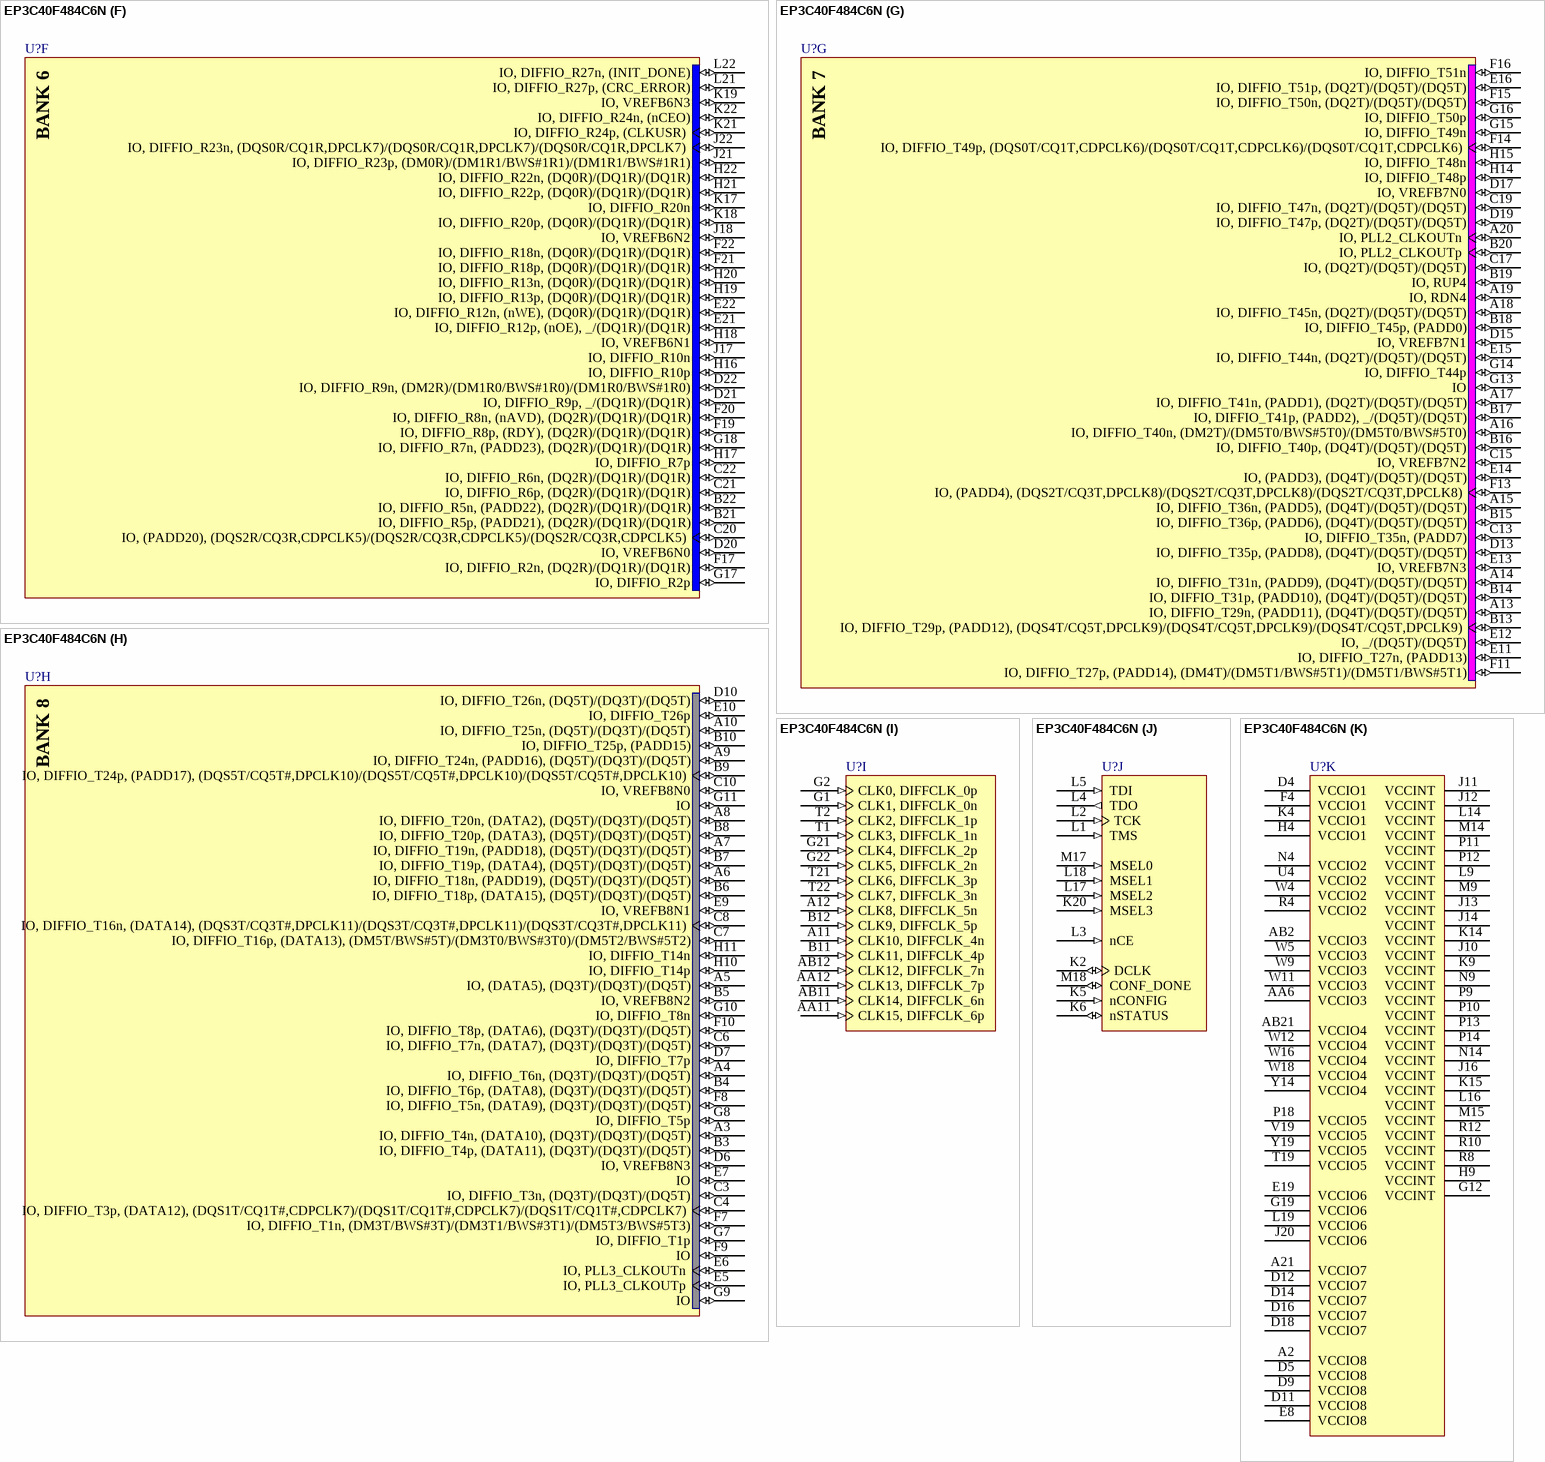
[diagram p19: symbol EP3C40F484C6N]

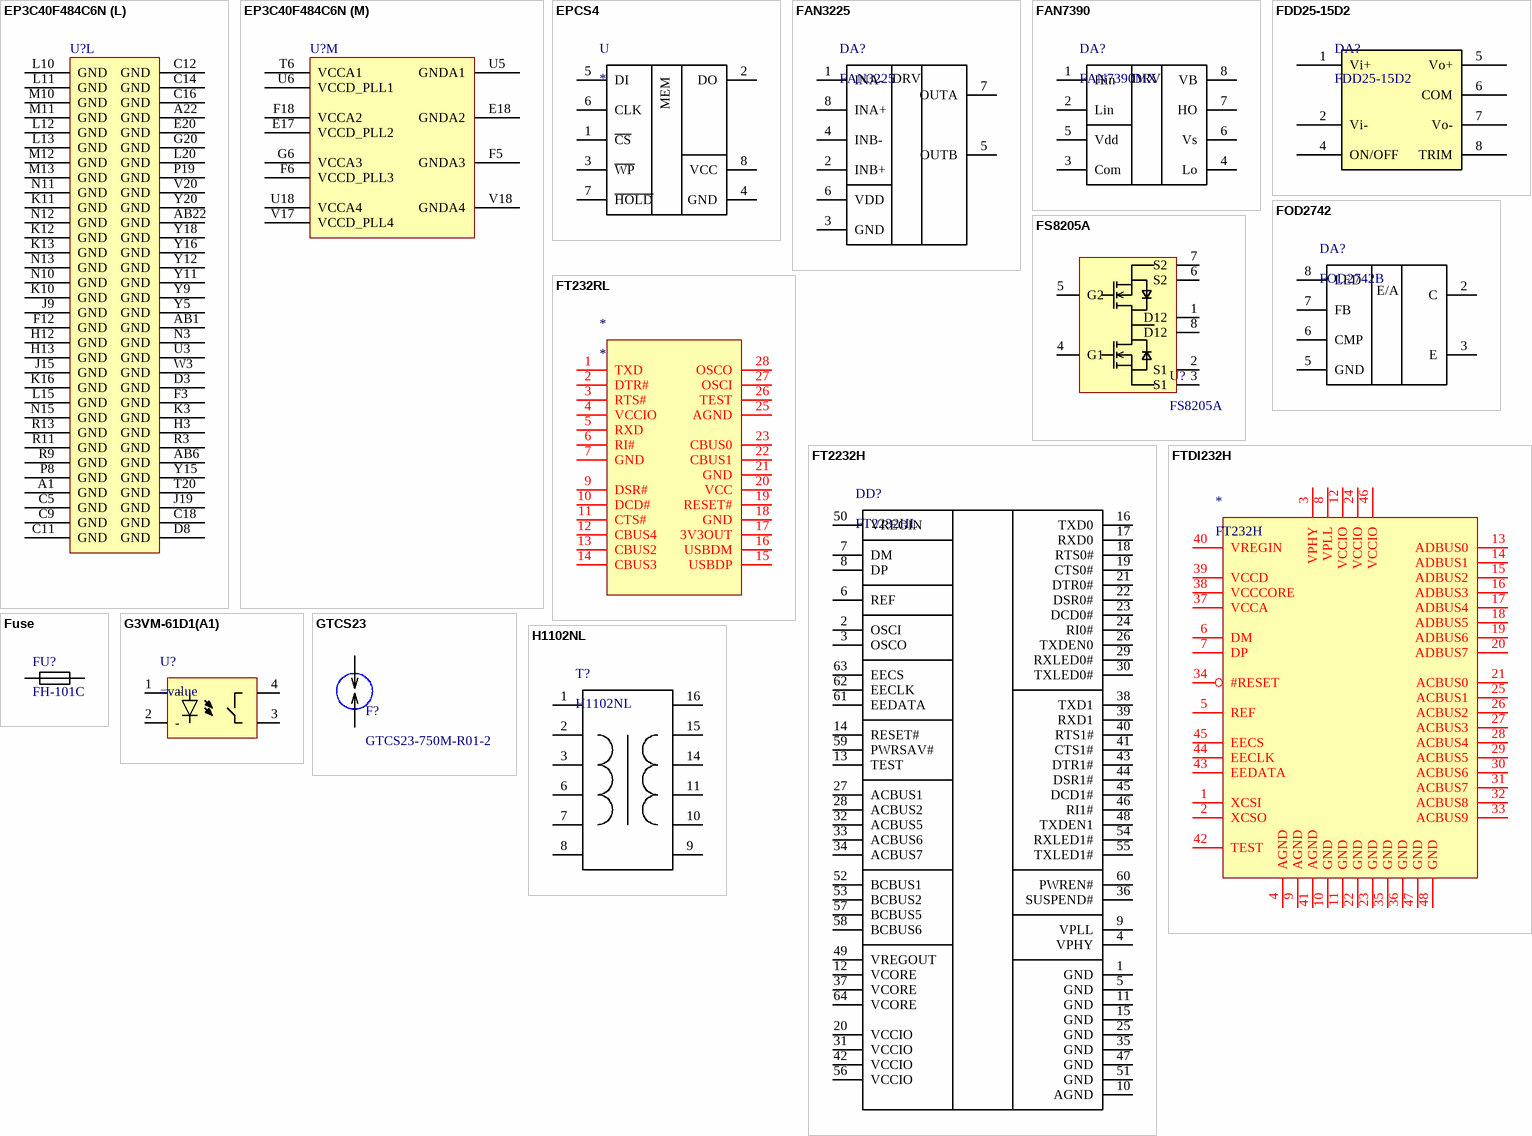
[diagram p20: symbols EP3C40F484C6N to H1102NL]